# Altium integrated library NXP Semiconductors Cortex-M3.IntLib: 52 symbols (part 1 of 7)
Pins are listed as number, name and electrical type; pins without a type are passive.

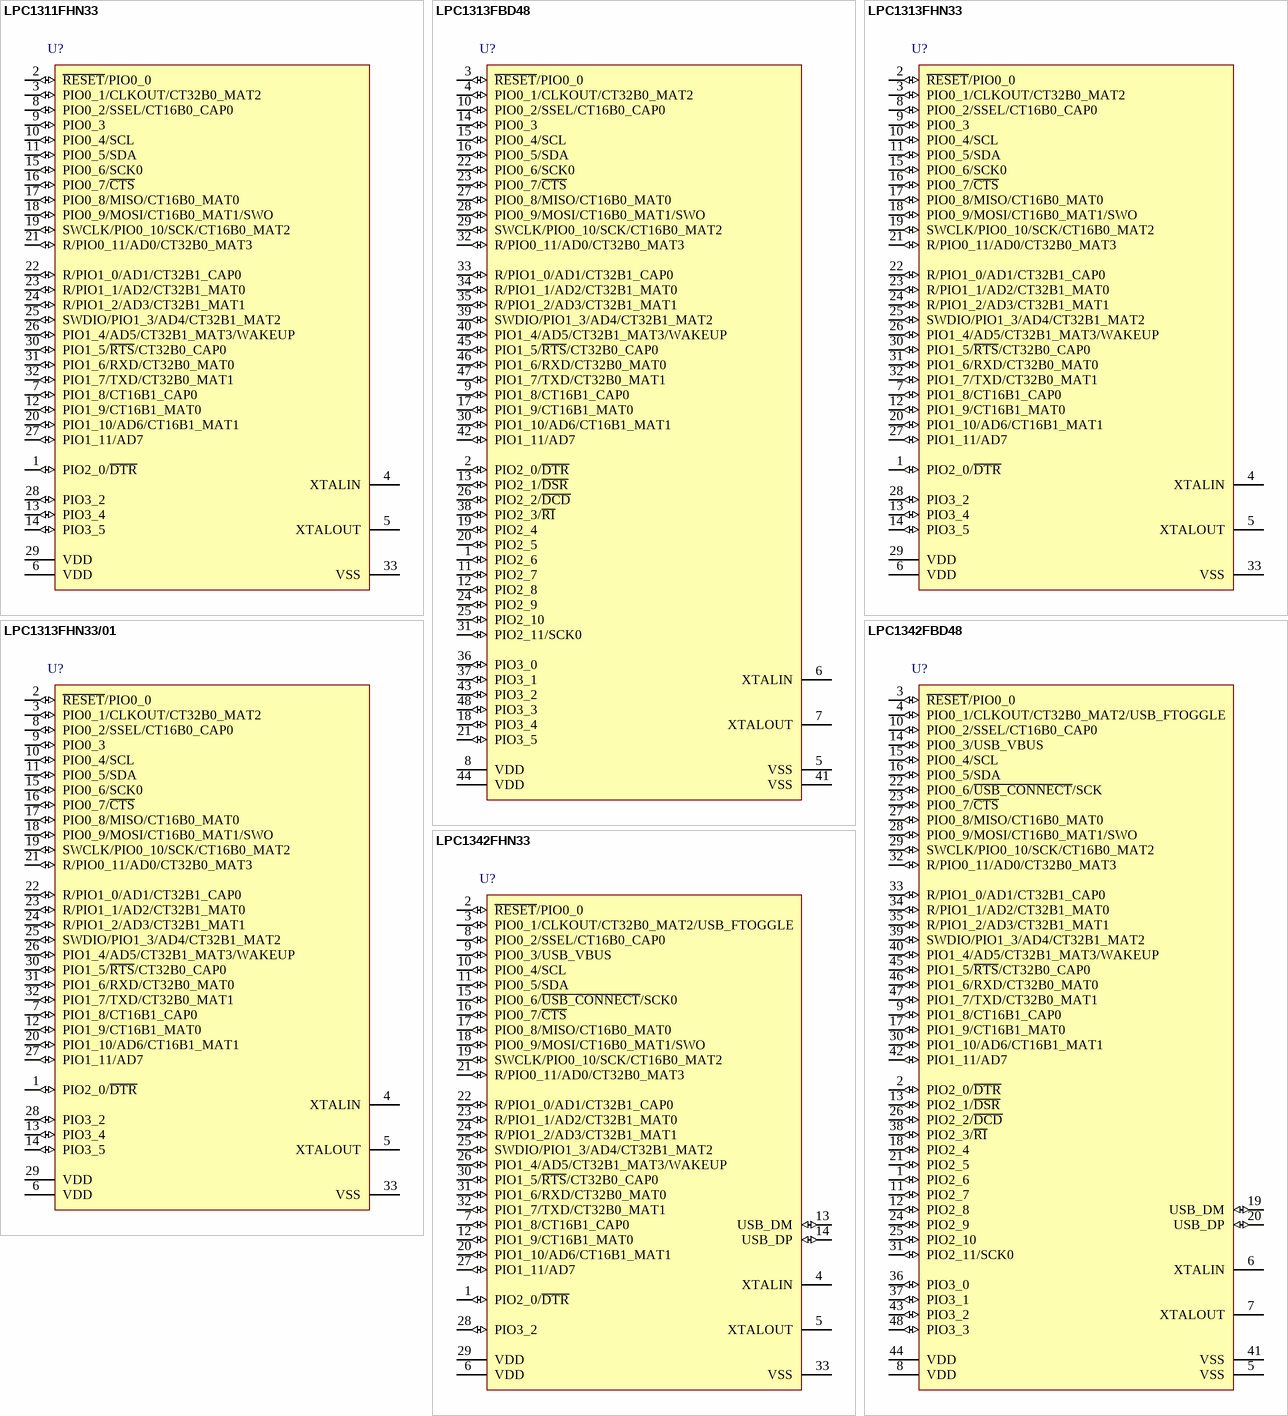
[diagram p0: symbols LPC1311FHN33 to LPC1342FHN33]

## LPC1311FHN33
designator U?
Cortex-M3, 32-Bit ARM MCU, 8 kB flash, 4 kB SRAM, 72 MHz, Power profiles, 32-Pin HVQFN; PartNumber: LPC1311FHN33; fmax: 72 MHz; SRAM: 4 kB; Flash: 8 kB; GPIOs: 28; UART: 1; PLL: Y; ADC channels: 8; Timers: 4; VDD (min): 2 V; VDD (typ): 3.3 V; VDD (max): 3.6 V; DatasheetVersion: Rev. 4, Jun-2011; PackageVersion: Jun-2009; PackageReference: SOT865-3; PackageDescription: HVQFN32: Plastic Thermal Enhanced Very Thin Quad Flat Package; No Leads; 32 Terminals; Body 7 x 7 x 0.85 mm; I2C: 1; SPI: 1; SSP: 1; Code_JEDEC: MO-220; ComponentLink1Description: Manufacturer URL; ComponentLink1URL: http://www.nxp.com/; ComponentLink2Description: Datasheet; ComponentLink2URL: http://www.nxp.com/documents/data_sheet/LPC1311_13_42_43.pdf
footprint SOT865-3_V (QFN, 32-Leads, Body 7x7mm, Pitch 0.65mm, Thermal Pad 4.7x4.7mm, NXP Recommended)
footprint SOT865-3_N (QFN, 32-Leads, Body 7x7mm, Pitch 0.65mm, Thermal Pad 4.9x4.9mm, IPC Medium Density)
footprint SOT865-3_L (QFN, 32-Leads, Body 7x7mm, Pitch 0.65mm, Thermal Pad 4.9x4.9mm, IPC High Density)
footprint SOT865-3_M (QFN, 32-Leads, Body 7x7mm, Pitch 0.65mm, Thermal Pad 4.9x4.9mm, IPC Low Density)
pins: 1 PIO2_0/~{DTR} (io), 2 ~{RESET}/PIO0_0 (io), 3 PIO0_1/CLKOUT/CT32B0_MAT2 (io), 4 XTALIN, 5 XTALOUT, 6 VDD (power), 7 PIO1_8/CT16B1_CAP0 (io), 8 PIO0_2/SSEL/CT16B0_CAP0 (io), 9 PIO0_3 (io), 10 PIO0_4/SCL (io), 11 PIO0_5/SDA (io), 12 PIO1_9/CT16B1_MAT0 (io), 13 PIO3_4 (io), 14 PIO3_5 (io), 15 PIO0_6/SCK0 (io), 16 PIO0_7/~{CTS} (io), 17 PIO0_8/MISO/CT16B0_MAT0 (io), 18 PIO0_9/MOSI/CT16B0_MAT1/SWO (io), 19 SWCLK/PIO0_10/SCK/CT16B0_MAT2 (io), 20 PIO1_10/AD6/CT16B1_MAT1 (io), 21 R/PIO0_11/AD0/CT32B0_MAT3 (io), 22 R/PIO1_0/AD1/CT32B1_CAP0 (io), 23 R/PIO1_1/AD2/CT32B1_MAT0 (io), 24 R/PIO1_2/AD3/CT32B1_MAT1 (io), 25 SWDIO/PIO1_3/AD4/CT32B1_MAT2 (io), 26 PIO1_4/AD5/CT32B1_MAT3/WAKEUP (io), 27 PIO1_11/AD7 (io), 28 PIO3_2 (io), 29 VDD (power), 30 PIO1_5/~{RTS}/CT32B0_CAP0 (io), 31 PIO1_6/RXD/CT32B0_MAT0 (io), 32 PIO1_7/TXD/CT32B0_MAT1 (io), 33 VSS (power)

## LPC1313FBD48
designator U?
Cortex-M3, 32-Bit ARM MCU, 32 kB flash, 8 kB SRAM, 72 MHz, Power profiles, 48-Pin LQFP; PartNumber: LPC1313FBD48; fmax: 72 MHz; SRAM: 8 kB; Flash: 32 kB; GPIOs: 42; UART: 1; PLL: Y; ADC channels: 8; Timers: 4; VDD (min): 2 V; VDD (typ): 3.3 V; VDD (max): 3.6 V; Code_IEC: 136E05; DatasheetVersion: Rev. 4, Jun-2011; PackageVersion: 37677; PackageReference: SOT313-2; PackageDescription: LQFP48: Plastic Low Profile Quad Flat Package; 48 Leads; Body 7 x 7 x 1.4 mm; I2C: 1; SPI: 1; SSP: 1; Code_JEDEC: MS-026; ComponentLink1Description: Manufacturer URL; ComponentLink1URL: http://www.nxp.com/; ComponentLink2Description: Datasheet; ComponentLink2URL: http://www.nxp.com/documents/data_sheet/LPC1311_13_42_43.pdf
footprint SOT313-2_V (Thin QFP, 48-Leads, Body 7x7mm, Pitch 0.5mm, NXP Recommended)
pins: 1 PIO2_6 (io), 2 PIO2_0/~{DTR} (io), 3 ~{RESET}/PIO0_0 (io), 4 PIO0_1/CLKOUT/CT32B0_MAT2 (io), 5 VSS (power), 6 XTALIN, 7 XTALOUT, 8 VDD (power), 9 PIO1_8/CT16B1_CAP0 (io), 10 PIO0_2/SSEL/CT16B0_CAP0 (io), 11 PIO2_7 (io), 12 PIO2_8 (io), 13 PIO2_1/~{DSR} (io), 14 PIO0_3 (io), 15 PIO0_4/SCL (io), 16 PIO0_5/SDA (io), 17 PIO1_9/CT16B1_MAT0 (io), 18 PIO3_4 (io), 19 PIO2_4 (io), 20 PIO2_5 (io), 21 PIO3_5 (io), 22 PIO0_6/SCK0 (io), 23 PIO0_7/~{CTS} (io), 24 PIO2_9 (io), 25 PIO2_10 (io), 26 PIO2_2/~{DCD} (io), 27 PIO0_8/MISO/CT16B0_MAT0 (io), 28 PIO0_9/MOSI/CT16B0_MAT1/SWO (io), 29 SWCLK/PIO0_10/SCK/CT16B0_MAT2 (io), 30 PIO1_10/AD6/CT16B1_MAT1 (io), 31 PIO2_11/SCK0 (io), 32 R/PIO0_11/AD0/CT32B0_MAT3 (io), 33 R/PIO1_0/AD1/CT32B1_CAP0 (io), 34 R/PIO1_1/AD2/CT32B1_MAT0 (io), 35 R/PIO1_2/AD3/CT32B1_MAT1 (io), 36 PIO3_0 (io), 37 PIO3_1 (io), 38 PIO2_3/~{RI} (io), 39 SWDIO/PIO1_3/AD4/CT32B1_MAT2 (io), 40 PIO1_4/AD5/CT32B1_MAT3/WAKEUP (io), 41 VSS (power), 42 PIO1_11/AD7 (io), 43 PIO3_2 (io), 44 VDD (power), 45 PIO1_5/~{RTS}/CT32B0_CAP0 (io), 46 PIO1_6/RXD/CT32B0_MAT0 (io), 47 PIO1_7/TXD/CT32B0_MAT1 (io), 48 PIO3_3 (io)

## LPC1313FHN33
designator U?
Cortex-M3, 32-Bit ARM MCU, 32 kB flash, 8 kB SRAM, 72 MHz, 32-Pin HVQFN; PartNumber: LPC1313FHN33; fmax: 72 MHz; SRAM: 8 kB; Flash: 32 kB; GPIOs: 28; UART: 1; PLL: Y; ADC channels: 8; Timers: 4; VDD (min): 2 V; VDD (typ): 3.3 V; VDD (max): 3.6 V; DatasheetVersion: Rev. 4, Jun-2011; PackageVersion: Jun-2009; PackageReference: SOT865-3; PackageDescription: HVQFN32: Plastic Thermal Enhanced Very Thin Quad Flat Package; No Leads; 32 Terminals; Body 7 x 7 x 0.85 mm; I2C: 1; SPI: 1; SSP: 1; Code_JEDEC: MO-220; ComponentLink1Description: Manufacturer URL; ComponentLink1URL: http://www.nxp.com/; ComponentLink2Description: Datasheet; ComponentLink2URL: http://www.nxp.com/documents/data_sheet/LPC1311_13_42_43.pdf
footprint SOT865-3_V (QFN, 32-Leads, Body 7x7mm, Pitch 0.65mm, Thermal Pad 4.7x4.7mm, NXP Recommended)
footprint SOT865-3_N (QFN, 32-Leads, Body 7x7mm, Pitch 0.65mm, Thermal Pad 4.9x4.9mm, IPC Medium Density)
footprint SOT865-3_L (QFN, 32-Leads, Body 7x7mm, Pitch 0.65mm, Thermal Pad 4.9x4.9mm, IPC High Density)
footprint SOT865-3_M (QFN, 32-Leads, Body 7x7mm, Pitch 0.65mm, Thermal Pad 4.9x4.9mm, IPC Low Density)
pins: 1 PIO2_0/~{DTR} (io), 2 ~{RESET}/PIO0_0 (io), 3 PIO0_1/CLKOUT/CT32B0_MAT2 (io), 4 XTALIN, 5 XTALOUT, 6 VDD (power), 7 PIO1_8/CT16B1_CAP0 (io), 8 PIO0_2/SSEL/CT16B0_CAP0 (io), 9 PIO0_3 (io), 10 PIO0_4/SCL (io), 11 PIO0_5/SDA (io), 12 PIO1_9/CT16B1_MAT0 (io), 13 PIO3_4 (io), 14 PIO3_5 (io), 15 PIO0_6/SCK0 (io), 16 PIO0_7/~{CTS} (io), 17 PIO0_8/MISO/CT16B0_MAT0 (io), 18 PIO0_9/MOSI/CT16B0_MAT1/SWO (io), 19 SWCLK/PIO0_10/SCK/CT16B0_MAT2 (io), 20 PIO1_10/AD6/CT16B1_MAT1 (io), 21 R/PIO0_11/AD0/CT32B0_MAT3 (io), 22 R/PIO1_0/AD1/CT32B1_CAP0 (io), 23 R/PIO1_1/AD2/CT32B1_MAT0 (io), 24 R/PIO1_2/AD3/CT32B1_MAT1 (io), 25 SWDIO/PIO1_3/AD4/CT32B1_MAT2 (io), 26 PIO1_4/AD5/CT32B1_MAT3/WAKEUP (io), 27 PIO1_11/AD7 (io), 28 PIO3_2 (io), 29 VDD (power), 30 PIO1_5/~{RTS}/CT32B0_CAP0 (io), 31 PIO1_6/RXD/CT32B0_MAT0 (io), 32 PIO1_7/TXD/CT32B0_MAT1 (io), 33 VSS (power)

## LPC1313FHN33/01
designator U?
Cortex-M3, 32-Bit ARM MCU, 32 kB flash, 8 kB SRAM, 72 MHz, 32-Pin HVQFN; PartNumber: LPC1313FHN33/01; fmax: 72 MHz; SRAM: 8 kB; Flash: 32 kB; GPIOs: 28; UART: 1; PLL: Y; ADC channels: 8; Timers: 4; VDD (min): 2 V; VDD (typ): 3.3 V; VDD (max): 3.6 V; DatasheetVersion: Rev. 4, Jun-2011; PackageVersion: Jun-2009; PackageReference: SOT865-3; PackageDescription: HVQFN32: Plastic Thermal Enhanced Very Thin Quad Flat Package; No Leads; 32 Terminals; Body 7 x 7 x 0.85 mm; I2C: 1; SPI: 1; SSP: 1; Code_JEDEC: MO-220; ComponentLink1Description: Manufacturer URL; ComponentLink1URL: http://www.nxp.com/; ComponentLink2Description: Datasheet; ComponentLink2URL: http://www.nxp.com/documents/data_sheet/LPC1311_13_42_43.pdf
footprint SOT865-3_V (QFN, 32-Leads, Body 7x7mm, Pitch 0.65mm, Thermal Pad 4.7x4.7mm, NXP Recommended)
footprint SOT865-3_N (QFN, 32-Leads, Body 7x7mm, Pitch 0.65mm, Thermal Pad 4.9x4.9mm, IPC Medium Density)
footprint SOT865-3_L (QFN, 32-Leads, Body 7x7mm, Pitch 0.65mm, Thermal Pad 4.9x4.9mm, IPC High Density)
footprint SOT865-3_M (QFN, 32-Leads, Body 7x7mm, Pitch 0.65mm, Thermal Pad 4.9x4.9mm, IPC Low Density)
pins: 1 PIO2_0/~{DTR} (io), 2 ~{RESET}/PIO0_0 (io), 3 PIO0_1/CLKOUT/CT32B0_MAT2 (io), 4 XTALIN, 5 XTALOUT, 6 VDD (power), 7 PIO1_8/CT16B1_CAP0 (io), 8 PIO0_2/SSEL/CT16B0_CAP0 (io), 9 PIO0_3 (io), 10 PIO0_4/SCL (io), 11 PIO0_5/SDA (io), 12 PIO1_9/CT16B1_MAT0 (io), 13 PIO3_4 (io), 14 PIO3_5 (io), 15 PIO0_6/SCK0 (io), 16 PIO0_7/~{CTS} (io), 17 PIO0_8/MISO/CT16B0_MAT0 (io), 18 PIO0_9/MOSI/CT16B0_MAT1/SWO (io), 19 SWCLK/PIO0_10/SCK/CT16B0_MAT2 (io), 20 PIO1_10/AD6/CT16B1_MAT1 (io), 21 R/PIO0_11/AD0/CT32B0_MAT3 (io), 22 R/PIO1_0/AD1/CT32B1_CAP0 (io), 23 R/PIO1_1/AD2/CT32B1_MAT0 (io), 24 R/PIO1_2/AD3/CT32B1_MAT1 (io), 25 SWDIO/PIO1_3/AD4/CT32B1_MAT2 (io), 26 PIO1_4/AD5/CT32B1_MAT3/WAKEUP (io), 27 PIO1_11/AD7 (io), 28 PIO3_2 (io), 29 VDD (power), 30 PIO1_5/~{RTS}/CT32B0_CAP0 (io), 31 PIO1_6/RXD/CT32B0_MAT0 (io), 32 PIO1_7/TXD/CT32B0_MAT1 (io), 33 VSS (power)

## LPC1342FBD48
designator U?
Cortex-M3, 32-Bit ARM MCU, 16 kB flash, 4 kB SRAM, 72 MHz performance, USB Device, 48-Pin LQFP; PartNumber: LPC1342FBD48; fmax: 72 MHz; SRAM: 4 kB; Flash: 16 kB; GPIOs: 42; USB: 1; PLL: Y; ADC channels: 8; Timers: 4; VDD (min): 2 V; VDD (typ): 3.3 V; VDD (max): 3.6 V; Code_IEC: 136E05; DatasheetVersion: Rev. 4, Jun-2011; PackageVersion: 37677; PackageReference: SOT313-2; PackageDescription: LQFP48: Plastic Low Profile Quad Flat Package; 48 Leads; Body 7 x 7 x 1.4 mm; UART: 1; I2C: 1; SPI: 1; SSP: 1; Code_JEDEC: MS-026; ComponentLink1Description: Manufacturer URL; ComponentLink1URL: http://www.nxp.com/; ComponentLink2Description: Datasheet; ComponentLink2URL: http://www.nxp.com/documents/data_sheet/LPC1311_13_42_43.pdf
footprint SOT313-2_V (Thin QFP, 48-Leads, Body 7x7mm, Pitch 0.5mm, NXP Recommended)
pins: 1 PIO2_6 (io), 2 PIO2_0/~{DTR} (io), 3 ~{RESET}/PIO0_0 (io), 4 PIO0_1/CLKOUT/CT32B0_MAT2/USB_FTOGGLE (io), 5 VSS (power), 6 XTALIN, 7 XTALOUT, 8 VDD (power), 9 PIO1_8/CT16B1_CAP0 (io), 10 PIO0_2/SSEL/CT16B0_CAP0 (io), 11 PIO2_7 (io), 12 PIO2_8 (io), 13 PIO2_1/~{DSR} (io), 14 PIO0_3/USB_VBUS (io), 15 PIO0_4/SCL (io), 16 PIO0_5/SDA (io), 17 PIO1_9/CT16B1_MAT0 (io), 18 PIO2_4 (io), 19 USB_DM (io), 20 USB_DP (io), 21 PIO2_5 (io), 22 PIO0_6/~{USB_CONNECT}/SCK (io), 23 PIO0_7/~{CTS} (io), 24 PIO2_9 (io), 25 PIO2_10 (io), 26 PIO2_2/~{DCD} (io), 27 PIO0_8/MISO/CT16B0_MAT0 (io), 28 PIO0_9/MOSI/CT16B0_MAT1/SWO (io), 29 SWCLK/PIO0_10/SCK/CT16B0_MAT2 (io), 30 PIO1_10/AD6/CT16B1_MAT1 (io), 31 PIO2_11/SCK0 (io), 32 R/PIO0_11/AD0/CT32B0_MAT3 (io), 33 R/PIO1_0/AD1/CT32B1_CAP0 (io), 34 R/PIO1_1/AD2/CT32B1_MAT0 (io), 35 R/PIO1_2/AD3/CT32B1_MAT1 (io), 36 PIO3_0 (io), 37 PIO3_1 (io), 38 PIO2_3/~{RI} (io), 39 SWDIO/PIO1_3/AD4/CT32B1_MAT2 (io), 40 PIO1_4/AD5/CT32B1_MAT3/WAKEUP (io), 41 VSS (power), 42 PIO1_11/AD7 (io), 43 PIO3_2 (io), 44 VDD (power), 45 PIO1_5/~{RTS}/CT32B0_CAP0 (io), 46 PIO1_6/RXD/CT32B0_MAT0 (io), 47 PIO1_7/TXD/CT32B0_MAT1 (io), 48 PIO3_3 (io)

## LPC1342FHN33
designator U?
Cortex-M3, 32-Bit ARM MCU, 16 kB flash, 4 kB SRAM, 72 MHz USB device, 32-Pin HVQFN; PartNumber: LPC1342FHN33; fmax: 72 MHz; SRAM: 4 kB; Flash: 16 kB; GPIOs: 26; USB: 1; PLL: Y; ADC channels: 8; Timers: 4; VDD (min): 2 V; VDD (typ): 3.3 V; VDD (max): 3.6 V; DatasheetVersion: Rev. 4, Jun-2011; PackageVersion: Jun-2009; PackageReference: SOT865-3; PackageDescription: HVQFN32: Plastic Thermal Enhanced Very Thin Quad Flat Package; No Leads; 32 Terminals; Body 7 x 7 x 0.85 mm; UART: 1; I2C: 1; SPI: 1; SSP: 1; Code_JEDEC: MO-220; ComponentLink1Description: Manufacturer URL; ComponentLink1URL: http://www.nxp.com/; ComponentLink2Description: Datasheet; ComponentLink2URL: http://www.nxp.com/documents/data_sheet/LPC1311_13_42_43.pdf
footprint SOT865-3_V (QFN, 32-Leads, Body 7x7mm, Pitch 0.65mm, Thermal Pad 4.7x4.7mm, NXP Recommended)
footprint SOT865-3_N (QFN, 32-Leads, Body 7x7mm, Pitch 0.65mm, Thermal Pad 4.9x4.9mm, IPC Medium Density)
footprint SOT865-3_L (QFN, 32-Leads, Body 7x7mm, Pitch 0.65mm, Thermal Pad 4.9x4.9mm, IPC High Density)
footprint SOT865-3_M (QFN, 32-Leads, Body 7x7mm, Pitch 0.65mm, Thermal Pad 4.9x4.9mm, IPC Low Density)
pins: 1 PIO2_0/~{DTR} (io), 2 ~{RESET}/PIO0_0 (io), 3 PIO0_1/CLKOUT/CT32B0_MAT2/USB_FTOGGLE (io), 4 XTALIN, 5 XTALOUT, 6 VDD (power), 7 PIO1_8/CT16B1_CAP0 (io), 8 PIO0_2/SSEL/CT16B0_CAP0 (io), 9 PIO0_3/USB_VBUS (io), 10 PIO0_4/SCL (io), 11 PIO0_5/SDA (io), 12 PIO1_9/CT16B1_MAT0 (io), 13 USB_DM (io), 14 USB_DP (io), 15 PIO0_6/~{USB_CONNECT}/SCK0 (io), 16 PIO0_7/~{CTS} (io), 17 PIO0_8/MISO/CT16B0_MAT0 (io), 18 PIO0_9/MOSI/CT16B0_MAT1/SWO (io), 19 SWCLK/PIO0_10/SCK/CT16B0_MAT2 (io), 20 PIO1_10/AD6/CT16B1_MAT1 (io), 21 R/PIO0_11/AD0/CT32B0_MAT3 (io), 22 R/PIO1_0/AD1/CT32B1_CAP0 (io), 23 R/PIO1_1/AD2/CT32B1_MAT0 (io), 24 R/PIO1_2/AD3/CT32B1_MAT1 (io), 25 SWDIO/PIO1_3/AD4/CT32B1_MAT2 (io), 26 PIO1_4/AD5/CT32B1_MAT3/WAKEUP (io), 27 PIO1_11/AD7 (io), 28 PIO3_2 (io), 29 VDD (power), 30 PIO1_5/~{RTS}/CT32B0_CAP0 (io), 31 PIO1_6/RXD/CT32B0_MAT0 (io), 32 PIO1_7/TXD/CT32B0_MAT1 (io), 33 VSS (power)

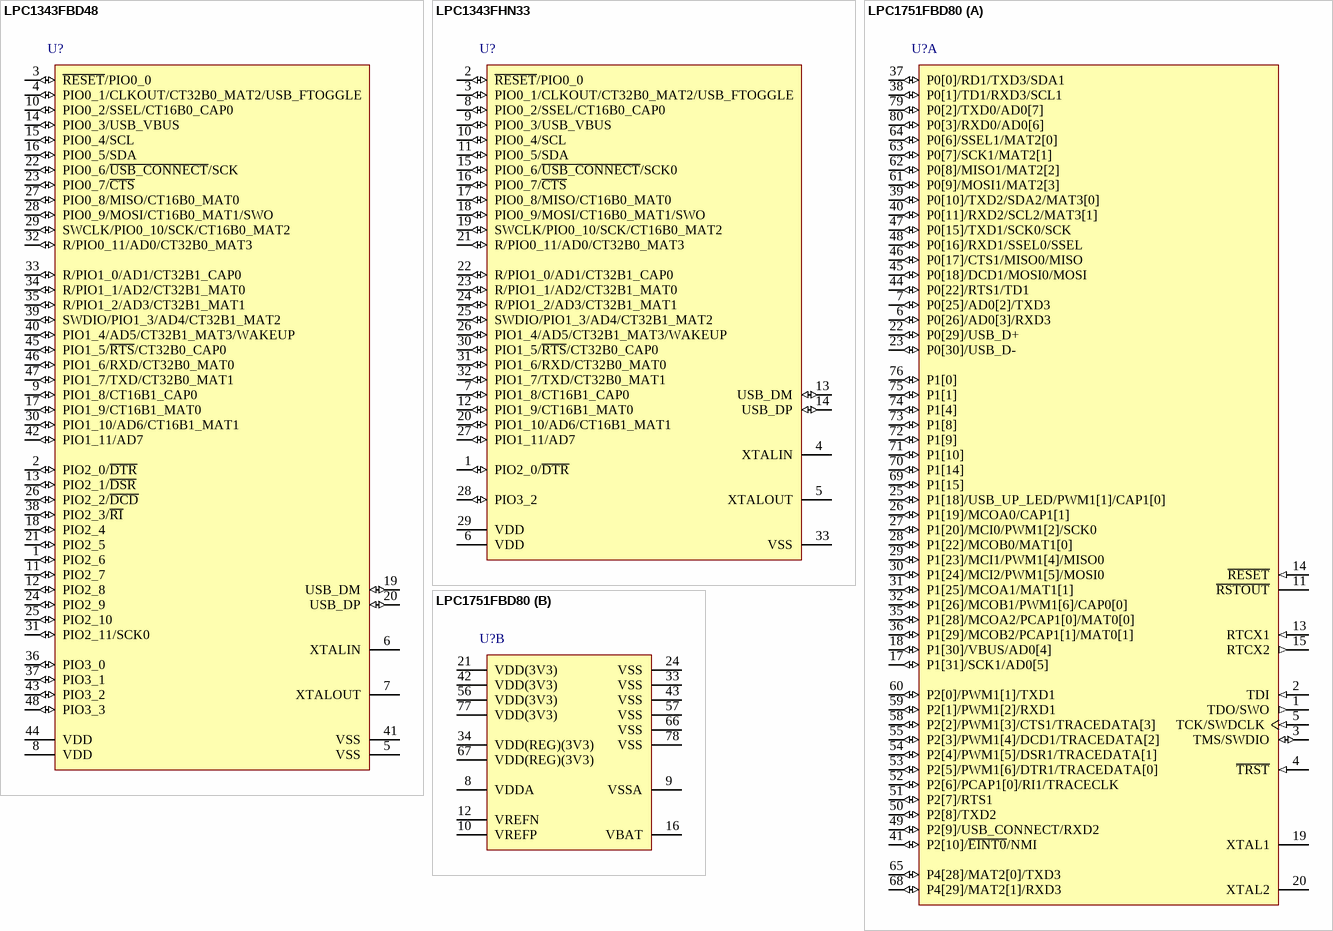
[diagram p1: symbols LPC1343FBD48 to LPC1751FBD80]

## LPC1343FBD48
designator U?
Cortex-M3, 32-Bit ARM MCU, 32 kB flash, 8 kB SRAM, 72 MHz USB device, 48-Pin LQFP; PartNumber: LPC1343FBD48; fmax: 72 MHz; SRAM: 8 kB; Flash: 32 kB; GPIOs: 40; USB: 1; PLL: Y; ADC channels: 8; Timers: 4; VDD (min): 2 V; VDD (typ): 3.3 V; VDD (max): 3.6 V; Code_IEC: 136E05; DatasheetVersion: Rev. 4, Jun-2011; PackageVersion: 37677; PackageReference: SOT313-2; PackageDescription: LQFP48: Plastic Low Profile Quad Flat Package; 48 Leads; Body 7 x 7 x 1.4 mm; UART: 1; I2C: 1; SPI: 1; SSP: 1; Code_JEDEC: MS-026; ComponentLink1Description: Manufacturer URL; ComponentLink1URL: http://www.nxp.com/; ComponentLink2Description: Datasheet; ComponentLink2URL: http://www.nxp.com/documents/data_sheet/LPC1311_13_42_43.pdf
footprint SOT313-2_V (Thin QFP, 48-Leads, Body 7x7mm, Pitch 0.5mm, NXP Recommended)
pins: 1 PIO2_6 (io), 2 PIO2_0/~{DTR} (io), 3 ~{RESET}/PIO0_0 (io), 4 PIO0_1/CLKOUT/CT32B0_MAT2/USB_FTOGGLE (io), 5 VSS (power), 6 XTALIN, 7 XTALOUT, 8 VDD (power), 9 PIO1_8/CT16B1_CAP0 (io), 10 PIO0_2/SSEL/CT16B0_CAP0 (io), 11 PIO2_7 (io), 12 PIO2_8 (io), 13 PIO2_1/~{DSR} (io), 14 PIO0_3/USB_VBUS (io), 15 PIO0_4/SCL (io), 16 PIO0_5/SDA (io), 17 PIO1_9/CT16B1_MAT0 (io), 18 PIO2_4 (io), 19 USB_DM (io), 20 USB_DP (io), 21 PIO2_5 (io), 22 PIO0_6/~{USB_CONNECT}/SCK (io), 23 PIO0_7/~{CTS} (io), 24 PIO2_9 (io), 25 PIO2_10 (io), 26 PIO2_2/~{DCD} (io), 27 PIO0_8/MISO/CT16B0_MAT0 (io), 28 PIO0_9/MOSI/CT16B0_MAT1/SWO (io), 29 SWCLK/PIO0_10/SCK/CT16B0_MAT2 (io), 30 PIO1_10/AD6/CT16B1_MAT1 (io), 31 PIO2_11/SCK0 (io), 32 R/PIO0_11/AD0/CT32B0_MAT3 (io), 33 R/PIO1_0/AD1/CT32B1_CAP0 (io), 34 R/PIO1_1/AD2/CT32B1_MAT0 (io), 35 R/PIO1_2/AD3/CT32B1_MAT1 (io), 36 PIO3_0 (io), 37 PIO3_1 (io), 38 PIO2_3/~{RI} (io), 39 SWDIO/PIO1_3/AD4/CT32B1_MAT2 (io), 40 PIO1_4/AD5/CT32B1_MAT3/WAKEUP (io), 41 VSS (power), 42 PIO1_11/AD7 (io), 43 PIO3_2 (io), 44 VDD (power), 45 PIO1_5/~{RTS}/CT32B0_CAP0 (io), 46 PIO1_6/RXD/CT32B0_MAT0 (io), 47 PIO1_7/TXD/CT32B0_MAT1 (io), 48 PIO3_3 (io)

## LPC1343FHN33
designator U?
Cortex-M3, 32-Bit ARM MCU, 32 kB flash, 8 kB SRAM, 72 MHz USB device, 32-Pin HVQFN; PartNumber: LPC1343FHN33; fmax: 72 MHz; SRAM: 8 kB; Flash: 32 kB; GPIOs: 26; USB: 1; PLL: Y; ADC channels: 8; Timers: 4; VDD (min): 2 V; VDD (typ): 3.3 V; VDD (max): 3.6 V; DatasheetVersion: Rev. 4, Jun-2011; PackageVersion: Jun-2009; PackageReference: SOT865-3; PackageDescription: HVQFN32: Plastic Thermal Enhanced Very Thin Quad Flat Package; No Leads; 32 Terminals; Body 7 x 7 x 0.85 mm; UART: 1; I2C: 1; SPI: 1; SSP: 1; Code_JEDEC: MO-220; ComponentLink1Description: Manufacturer URL; ComponentLink1URL: http://www.nxp.com/; ComponentLink2Description: Datasheet; ComponentLink2URL: http://www.nxp.com/documents/data_sheet/LPC1311_13_42_43.pdf
footprint SOT865-3_V (QFN, 32-Leads, Body 7x7mm, Pitch 0.65mm, Thermal Pad 4.7x4.7mm, NXP Recommended)
footprint SOT865-3_N (QFN, 32-Leads, Body 7x7mm, Pitch 0.65mm, Thermal Pad 4.9x4.9mm, IPC Medium Density)
footprint SOT865-3_L (QFN, 32-Leads, Body 7x7mm, Pitch 0.65mm, Thermal Pad 4.9x4.9mm, IPC High Density)
footprint SOT865-3_M (QFN, 32-Leads, Body 7x7mm, Pitch 0.65mm, Thermal Pad 4.9x4.9mm, IPC Low Density)
pins: 1 PIO2_0/~{DTR} (io), 2 ~{RESET}/PIO0_0 (io), 3 PIO0_1/CLKOUT/CT32B0_MAT2/USB_FTOGGLE (io), 4 XTALIN, 5 XTALOUT, 6 VDD (power), 7 PIO1_8/CT16B1_CAP0 (io), 8 PIO0_2/SSEL/CT16B0_CAP0 (io), 9 PIO0_3/USB_VBUS (io), 10 PIO0_4/SCL (io), 11 PIO0_5/SDA (io), 12 PIO1_9/CT16B1_MAT0 (io), 13 USB_DM (io), 14 USB_DP (io), 15 PIO0_6/~{USB_CONNECT}/SCK0 (io), 16 PIO0_7/~{CTS} (io), 17 PIO0_8/MISO/CT16B0_MAT0 (io), 18 PIO0_9/MOSI/CT16B0_MAT1/SWO (io), 19 SWCLK/PIO0_10/SCK/CT16B0_MAT2 (io), 20 PIO1_10/AD6/CT16B1_MAT1 (io), 21 R/PIO0_11/AD0/CT32B0_MAT3 (io), 22 R/PIO1_0/AD1/CT32B1_CAP0 (io), 23 R/PIO1_1/AD2/CT32B1_MAT0 (io), 24 R/PIO1_2/AD3/CT32B1_MAT1 (io), 25 SWDIO/PIO1_3/AD4/CT32B1_MAT2 (io), 26 PIO1_4/AD5/CT32B1_MAT3/WAKEUP (io), 27 PIO1_11/AD7 (io), 28 PIO3_2 (io), 29 VDD (power), 30 PIO1_5/~{RTS}/CT32B0_CAP0 (io), 31 PIO1_6/RXD/CT32B0_MAT0 (io), 32 PIO1_7/TXD/CT32B0_MAT1 (io), 33 VSS (power)

## LPC1751FBD80
designator U?
Cortex-M3, 32-Bit ARM MCU, 32 kB flash, 8 kB SRAM, 100 MHz, USB 2.0 Device, CAN, 12-Bit ADC, 80-Pin LQFP; PartNumber: LPC1751FBD80; fmax: 100 MHz; SRAM: 8 kB; Flash: 32 kB; GPIOs: 52; USB: 1; UART: 4; SSP: 2; PWM: 6; PLL: Y; VDD (min): 2.4 V; VDD (typ): 3.3 V; VDD (max): 3.6 V; Code_IEC: 136E15; DatasheetVersion: Rev. 7, Mar-2011; PackageVersion: 37677; PackageReference: SOT315-1; PackageDescription: LQFP80: Plastic Low Profile Quad Flat Package; 80 Leads; Body 12 x 12 x 1.4 mm; CAN: 1; SPI: 1; ADC channels: 6; Timers: 4; Code_JEDEC: MS-026; ComponentLink1Description: Manufacturer URL; ComponentLink1URL: http://www.nxp.com/; ComponentLink2Description: Datasheet; ComponentLink2URL: http://www.nxp.com/documents/data_sheet/LPC1759_58_56_54_52_51.pdf
footprint SOT315-1_V (Thin QFP, 80-Leads, Body 12x12mm, Pitch 0.5mm, NXP Recommended)
part A pins: 1 TDO/SWO (out), 2 TDI (in), 3 TMS/SWDIO (io), 4 ~{TRST} (in), 5 TCK/SWDCLK (in), 6 P0[26]/AD0[3]/RXD3 (io), 7 P0[25]/AD0[2]/TXD3 (io), 11 ~{RSTOUT}, 13 RTCX1 (in), 14 ~{RESET} (in), 15 RTCX2 (out), 17 P1[31]/SCK1/AD0[5] (io), 18 P1[30]/VBUS/AD0[4] (io), 19 XTAL1, 20 XTAL2, 22 P0[29]/USB_D+ (io), 23 P0[30]/USB_D- (io), 25 P1[18]/USB_UP_LED/PWM1[1]/CAP1[0] (io), 26 P1[19]/MCOA0/CAP1[1] (io), 27 P1[20]/MCI0/PWM1[2]/SCK0 (io), 28 P1[22]/MCOB0/MAT1[0] (io), 29 P1[23]/MCI1/PWM1[4]/MISO0 (io), 30 P1[24]/MCI2/PWM1[5]/MOSI0 (io), 31 P1[25]/MCOA1/MAT1[1] (io), 32 P1[26]/MCOB1/PWM1[6]/CAP0[0] (io), 35 P1[28]/MCOA2/PCAP1[0]/MAT0[0] (io), 36 P1[29]/MCOB2/PCAP1[1]/MAT0[1] (io), 37 P0[0]/RD1/TXD3/SDA1 (io), 38 P0[1]/TD1/RXD3/SCL1 (io), 39 P0[10]/TXD2/SDA2/MAT3[0] (io), 40 P0[11]/RXD2/SCL2/MAT3[1] (io), 41 P2[10]/~{EINT0}/NMI (io), 44 P0[22]/RTS1/TD1 (io), 45 P0[18]/DCD1/MOSI0/MOSI (io), 46 P0[17]/CTS1/MISO0/MISO (io), 47 P0[15]/TXD1/SCK0/SCK (io), 48 P0[16]/RXD1/SSEL0/SSEL (io), 49 P2[9]/USB_CONNECT/RXD2 (io), 50 P2[8]/TXD2 (io), 51 P2[7]/RTS1 (io), 52 P2[6]/PCAP1[0]/RI1/TRACECLK (io), 53 P2[5]/PWM1[6]/DTR1/TRACEDATA[0] (io), 54 P2[4]/PWM1[5]/DSR1/TRACEDATA[1] (io), 55 P2[3]/PWM1[4]/DCD1/TRACEDATA[2] (io), 58 P2[2]/PWM1[3]/CTS1/TRACEDATA[3] (io), 59 P2[1]/PWM1[2]/RXD1 (io), 60 P2[0]/PWM1[1]/TXD1 (io), 61 P0[9]/MOSI1/MAT2[3] (io), 62 P0[8]/MISO1/MAT2[2] (io), 63 P0[7]/SCK1/MAT2[1] (io), 64 P0[6]/SSEL1/MAT2[0] (io), 65 P4[28]/MAT2[0]/TXD3 (io), 68 P4[29]/MAT2[1]/RXD3 (io), 69 P1[15] (io), 70 P1[14] (io), 71 P1[10] (io), 72 P1[9] (io), 73 P1[8] (io), 74 P1[4] (io), 75 P1[1] (io), 76 P1[0] (io), 79 P0[2]/TXD0/AD0[7] (io), 80 P0[3]/RXD0/AD0[6] (io)
part B pins: 8 VDDA (power), 9 VSSA (power), 10 VREFP (power), 12 VREFN (power), 16 VBAT (power), 21 VDD(3V3) (power), 24 VSS (power), 33 VSS (power), 34 VDD(REG)(3V3) (power), 42 VDD(3V3) (power), 43 VSS (power), 56 VDD(3V3) (power), 57 VSS (power), 66 VSS (power), 67 VDD(REG)(3V3) (power), 77 VDD(3V3) (power), 78 VSS (power)

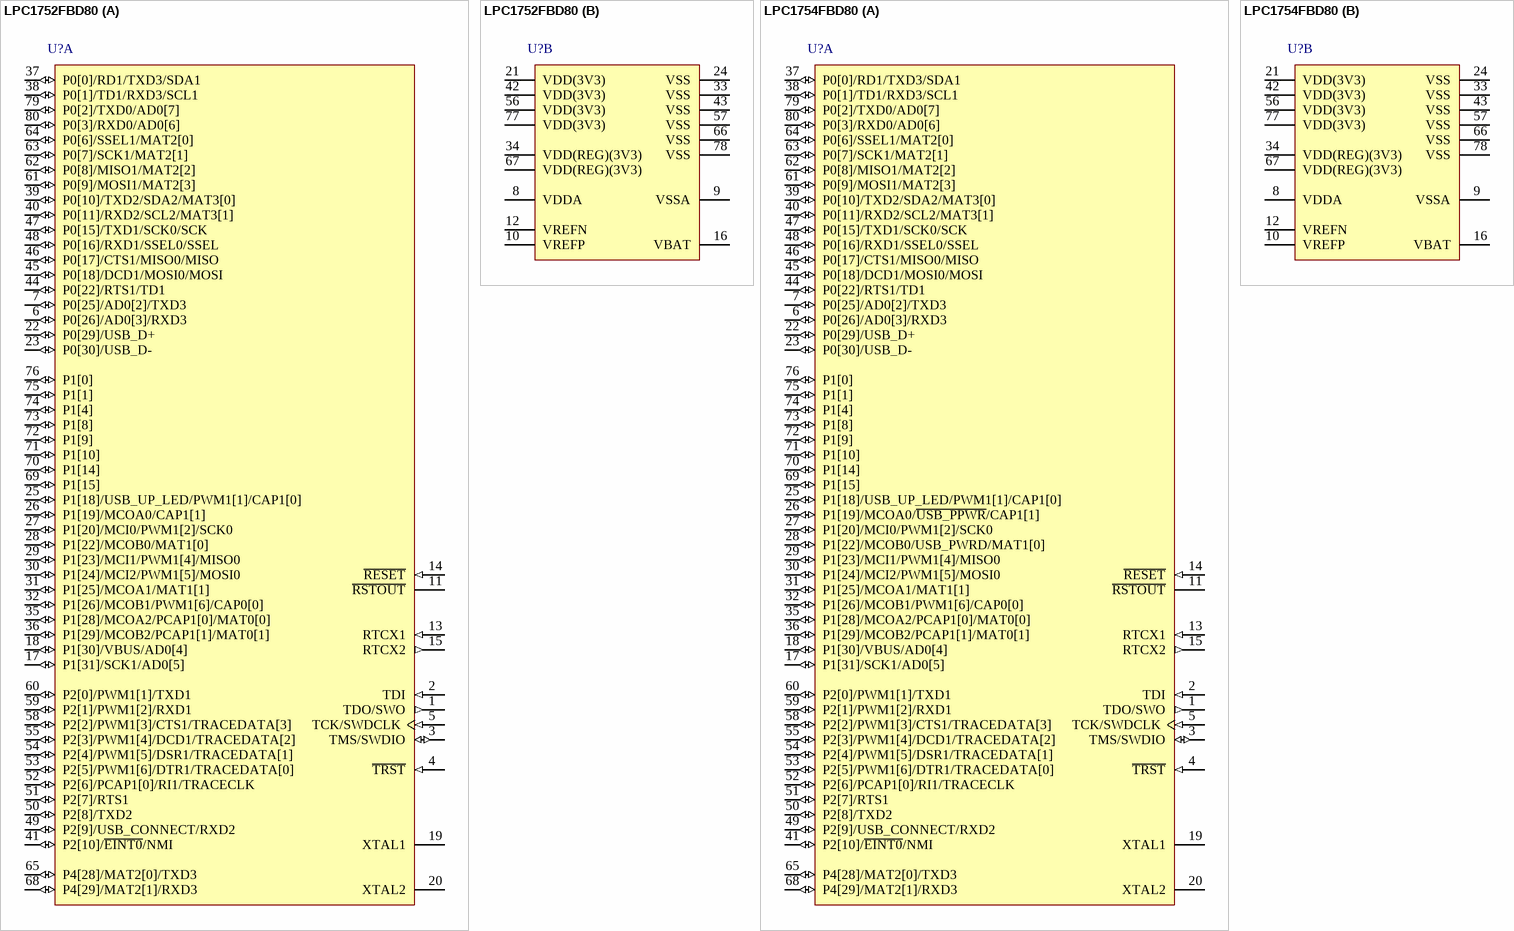
[diagram p2: symbols LPC1752FBD80 to LPC1754FBD80]

## LPC1752FBD80
designator U?
Cortex-M3, 32-Bit ARM MCU, 64 kB flash, 16 kB SRAM, 100 MHz, USB 2.0 Device, CAN, 12-Bit ADC, 80-Pin LQFP; PartNumber: LPC1752FBD80; fmax: 100 MHz; SRAM: 16 kB; Flash: 64 kB; GPIOs: 52; USB: 1; UART: 4; SSP: 2; PWM: 6; PLL: Y; VDD (min): 2.4 V; VDD (typ): 3.3 V; VDD (max): 3.6 V; Code_IEC: 136E15; DatasheetVersion: Rev. 7, Mar-2011; PackageVersion: 37677; PackageReference: SOT315-1; PackageDescription: LQFP80: Plastic Low Profile Quad Flat Package; 80 Leads; Body 12 x 12 x 1.4 mm; CAN: 1; SPI: 1; ADC channels: 6; Timers: 4; Code_JEDEC: MS-026; ComponentLink1Description: Manufacturer URL; ComponentLink1URL: http://www.nxp.com/; ComponentLink2Description: Datasheet; ComponentLink2URL: http://www.nxp.com/documents/data_sheet/LPC1759_58_56_54_52_51.pdf
footprint SOT315-1_V (Thin QFP, 80-Leads, Body 12x12mm, Pitch 0.5mm, NXP Recommended)
part A pins: 1 TDO/SWO (out), 2 TDI (in), 3 TMS/SWDIO (io), 4 ~{TRST} (in), 5 TCK/SWDCLK (in), 6 P0[26]/AD0[3]/RXD3 (io), 7 P0[25]/AD0[2]/TXD3 (io), 11 ~{RSTOUT}, 13 RTCX1 (in), 14 ~{RESET} (in), 15 RTCX2 (out), 17 P1[31]/SCK1/AD0[5] (io), 18 P1[30]/VBUS/AD0[4] (io), 19 XTAL1, 20 XTAL2, 22 P0[29]/USB_D+ (io), 23 P0[30]/USB_D- (io), 25 P1[18]/USB_UP_LED/PWM1[1]/CAP1[0] (io), 26 P1[19]/MCOA0/CAP1[1] (io), 27 P1[20]/MCI0/PWM1[2]/SCK0 (io), 28 P1[22]/MCOB0/MAT1[0] (io), 29 P1[23]/MCI1/PWM1[4]/MISO0 (io), 30 P1[24]/MCI2/PWM1[5]/MOSI0 (io), 31 P1[25]/MCOA1/MAT1[1] (io), 32 P1[26]/MCOB1/PWM1[6]/CAP0[0] (io), 35 P1[28]/MCOA2/PCAP1[0]/MAT0[0] (io), 36 P1[29]/MCOB2/PCAP1[1]/MAT0[1] (io), 37 P0[0]/RD1/TXD3/SDA1 (io), 38 P0[1]/TD1/RXD3/SCL1 (io), 39 P0[10]/TXD2/SDA2/MAT3[0] (io), 40 P0[11]/RXD2/SCL2/MAT3[1] (io), 41 P2[10]/~{EINT0}/NMI (io), 44 P0[22]/RTS1/TD1 (io), 45 P0[18]/DCD1/MOSI0/MOSI (io), 46 P0[17]/CTS1/MISO0/MISO (io), 47 P0[15]/TXD1/SCK0/SCK (io), 48 P0[16]/RXD1/SSEL0/SSEL (io), 49 P2[9]/USB_CONNECT/RXD2 (io), 50 P2[8]/TXD2 (io), 51 P2[7]/RTS1 (io), 52 P2[6]/PCAP1[0]/RI1/TRACECLK (io), 53 P2[5]/PWM1[6]/DTR1/TRACEDATA[0] (io), 54 P2[4]/PWM1[5]/DSR1/TRACEDATA[1] (io), 55 P2[3]/PWM1[4]/DCD1/TRACEDATA[2] (io), 58 P2[2]/PWM1[3]/CTS1/TRACEDATA[3] (io), 59 P2[1]/PWM1[2]/RXD1 (io), 60 P2[0]/PWM1[1]/TXD1 (io), 61 P0[9]/MOSI1/MAT2[3] (io), 62 P0[8]/MISO1/MAT2[2] (io), 63 P0[7]/SCK1/MAT2[1] (io), 64 P0[6]/SSEL1/MAT2[0] (io), 65 P4[28]/MAT2[0]/TXD3 (io), 68 P4[29]/MAT2[1]/RXD3 (io), 69 P1[15] (io), 70 P1[14] (io), 71 P1[10] (io), 72 P1[9] (io), 73 P1[8] (io), 74 P1[4] (io), 75 P1[1] (io), 76 P1[0] (io), 79 P0[2]/TXD0/AD0[7] (io), 80 P0[3]/RXD0/AD0[6] (io)
part B pins: 8 VDDA (power), 9 VSSA (power), 10 VREFP (power), 12 VREFN (power), 16 VBAT (power), 21 VDD(3V3) (power), 24 VSS (power), 33 VSS (power), 34 VDD(REG)(3V3) (power), 42 VDD(3V3) (power), 43 VSS (power), 56 VDD(3V3) (power), 57 VSS (power), 66 VSS (power), 67 VDD(REG)(3V3) (power), 77 VDD(3V3) (power), 78 VSS (power)

## LPC1754FBD80
designator U?
Cortex-M3, 32-Bit ARM MCU, 128 kB flash, 32 kB SRAM, 100 MHz, USB 2.0 Device/Host/OTG, CAN, 12-Bit ADC, DAC, 80-Pin LQFP; PartNumber: LPC1754FBD80; fmax: 100 MHz; SRAM: 32 kB; Flash: 128 kB; GPIOs: 52; USB: 1; UART: 4; SSP: 2; PWM: 6; PLL: Y; VDD (min): 2.4 V; VDD (typ): 3.3 V; VDD (max): 3.6 V; Code_IEC: 136E15; DatasheetVersion: Rev. 7, Mar-2011; PackageVersion: 37677; PackageReference: SOT315-1; PackageDescription: LQFP80: Plastic Low Profile Quad Flat Package; 80 Leads; Body 12 x 12 x 1.4 mm; CAN: 1; SPI: 1; ADC channels: 6; Timers: 4; Code_JEDEC: MS-026; ComponentLink1Description: Manufacturer URL; ComponentLink1URL: http://www.nxp.com/; ComponentLink2Description: Datasheet; ComponentLink2URL: http://www.nxp.com/documents/data_sheet/LPC1759_58_56_54_52_51.pdf
footprint SOT315-1_V (Thin QFP, 80-Leads, Body 12x12mm, Pitch 0.5mm, NXP Recommended)
part A pins: 1 TDO/SWO (out), 2 TDI (in), 3 TMS/SWDIO (io), 4 ~{TRST} (in), 5 TCK/SWDCLK (in), 6 P0[26]/AD0[3]/RXD3 (io), 7 P0[25]/AD0[2]/TXD3 (io), 11 ~{RSTOUT}, 13 RTCX1 (in), 14 ~{RESET} (in), 15 RTCX2 (out), 17 P1[31]/SCK1/AD0[5] (io), 18 P1[30]/VBUS/AD0[4] (io), 19 XTAL1, 20 XTAL2, 22 P0[29]/USB_D+ (io), 23 P0[30]/USB_D- (io), 25 P1[18]/USB_UP_LED/PWM1[1]/CAP1[0] (io), 26 P1[19]/MCOA0/~{USB_PPWR}/CAP1[1] (io), 27 P1[20]/MCI0/PWM1[2]/SCK0 (io), 28 P1[22]/MCOB0/USB_PWRD/MAT1[0] (io), 29 P1[23]/MCI1/PWM1[4]/MISO0 (io), 30 P1[24]/MCI2/PWM1[5]/MOSI0 (io), 31 P1[25]/MCOA1/MAT1[1] (io), 32 P1[26]/MCOB1/PWM1[6]/CAP0[0] (io), 35 P1[28]/MCOA2/PCAP1[0]/MAT0[0] (io), 36 P1[29]/MCOB2/PCAP1[1]/MAT0[1] (io), 37 P0[0]/RD1/TXD3/SDA1 (io), 38 P0[1]/TD1/RXD3/SCL1 (io), 39 P0[10]/TXD2/SDA2/MAT3[0] (io), 40 P0[11]/RXD2/SCL2/MAT3[1] (io), 41 P2[10]/~{EINT0}/NMI (io), 44 P0[22]/RTS1/TD1 (io), 45 P0[18]/DCD1/MOSI0/MOSI (io), 46 P0[17]/CTS1/MISO0/MISO (io), 47 P0[15]/TXD1/SCK0/SCK (io), 48 P0[16]/RXD1/SSEL0/SSEL (io), 49 P2[9]/USB_CONNECT/RXD2 (io), 50 P2[8]/TXD2 (io), 51 P2[7]/RTS1 (io), 52 P2[6]/PCAP1[0]/RI1/TRACECLK (io), 53 P2[5]/PWM1[6]/DTR1/TRACEDATA[0] (io), 54 P2[4]/PWM1[5]/DSR1/TRACEDATA[1] (io), 55 P2[3]/PWM1[4]/DCD1/TRACEDATA[2] (io), 58 P2[2]/PWM1[3]/CTS1/TRACEDATA[3] (io), 59 P2[1]/PWM1[2]/RXD1 (io), 60 P2[0]/PWM1[1]/TXD1 (io), 61 P0[9]/MOSI1/MAT2[3] (io), 62 P0[8]/MISO1/MAT2[2] (io), 63 P0[7]/SCK1/MAT2[1] (io), 64 P0[6]/SSEL1/MAT2[0] (io), 65 P4[28]/MAT2[0]/TXD3 (io), 68 P4[29]/MAT2[1]/RXD3 (io), 69 P1[15] (io), 70 P1[14] (io), 71 P1[10] (io), 72 P1[9] (io), 73 P1[8] (io), 74 P1[4] (io), 75 P1[1] (io), 76 P1[0] (io), 79 P0[2]/TXD0/AD0[7] (io), 80 P0[3]/RXD0/AD0[6] (io)
part B pins: 8 VDDA (power), 9 VSSA (power), 10 VREFP (power), 12 VREFN (power), 16 VBAT (power), 21 VDD(3V3) (power), 24 VSS (power), 33 VSS (power), 34 VDD(REG)(3V3) (power), 42 VDD(3V3) (power), 43 VSS (power), 56 VDD(3V3) (power), 57 VSS (power), 66 VSS (power), 67 VDD(REG)(3V3) (power), 77 VDD(3V3) (power), 78 VSS (power)

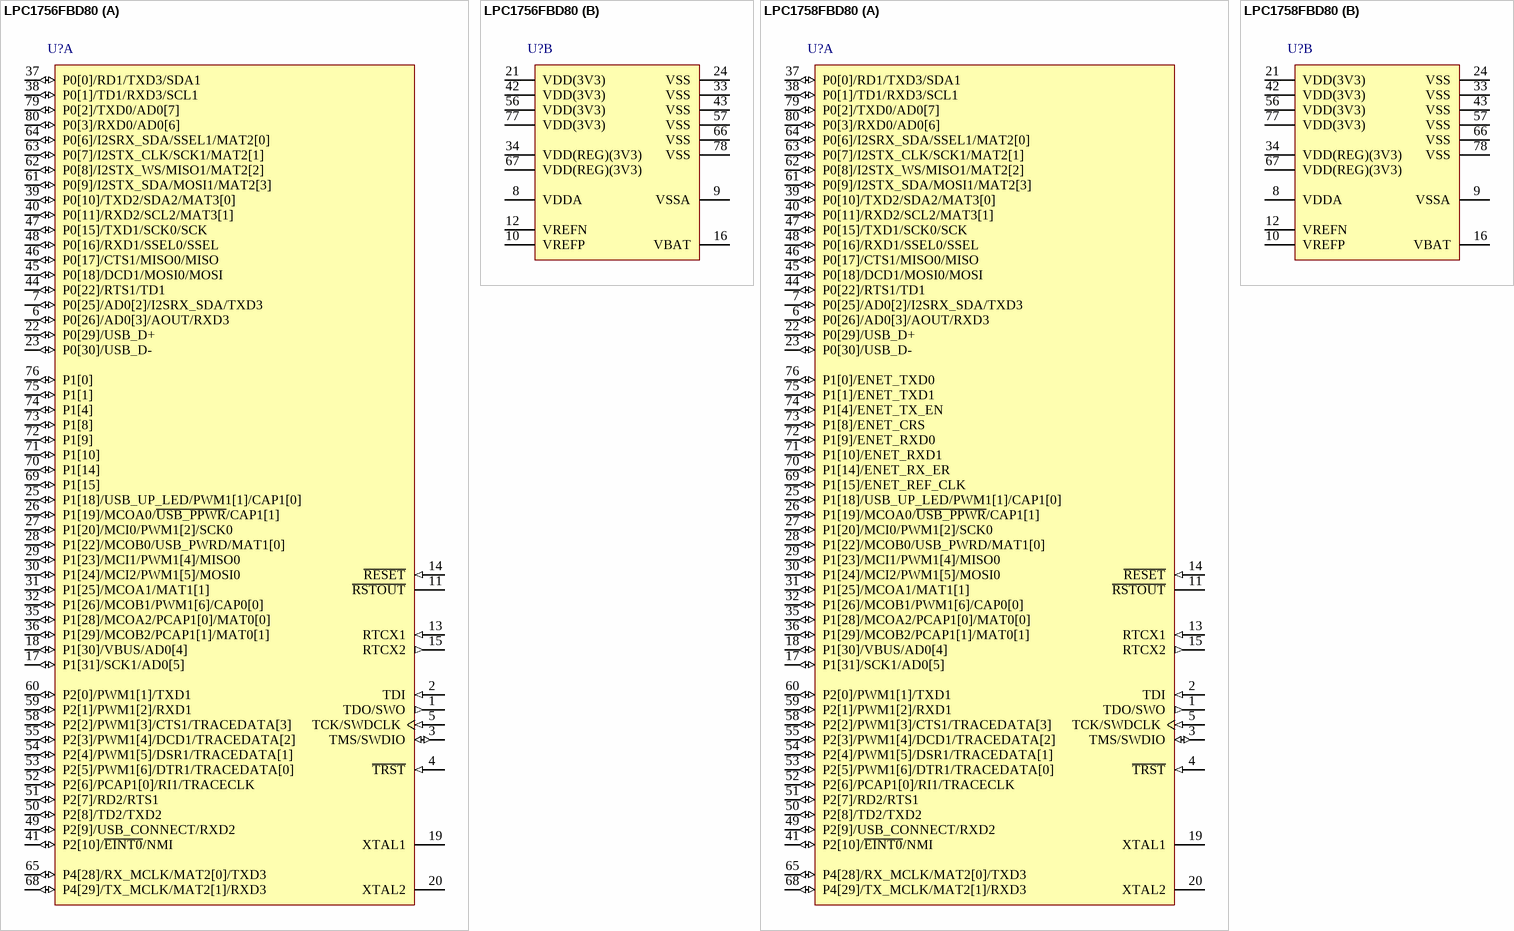
[diagram p3: symbols LPC1756FBD80 to LPC1758FBD80]

## LPC1756FBD80
designator U?
32-bit ARM Cortex-M3 MCU, 256 kB Flash, 32 kB SRAM, 100 MHz, USB 2.0 Device/Host/OTG, CAN, 12-Bit ADC, DAC, I2S, 80-Pin LQFP; PartNumber: LPC1756FBD80; fmax: 100 MHz; SRAM: 32 kB; Flash: 256 kB; GPIOs: 52; USB: 1; CAN: 2; UART: 4; PWM: 6; PLL: Y; VDD (min): 2.4 V; VDD (typ): 3.3 V; VDD (max): 3.6 V; Code_IEC: 136E15; DatasheetVersion: Rev. 7, Mar-2011; PackageVersion: Feb-2003; PackageReference: SOT315-1; PackageDescription: LQFP80: Plastic Low Profile Quad Flat Package; 80 Leads; Body 12 x 12 x 1.4 mm; SPI: 1; SSP: 2; ADC channels: 6; Timers: 4; Code_JEDEC: MS-026; ComponentLink1Description: Manufacturer URL; ComponentLink1URL: http://www.nxp.com/; ComponentLink2Description: Datasheet; ComponentLink2URL: http://www.nxp.com/documents/data_sheet/LPC1759_58_56_54_52_51.pdf
footprint SOT315-1_V (Thin QFP, 80-Leads, Body 12x12mm, Pitch 0.5mm, NXP Recommended)
part A pins: 1 TDO/SWO (out), 2 TDI (in), 3 TMS/SWDIO (io), 4 ~{TRST} (in), 5 TCK/SWDCLK (in), 6 P0[26]/AD0[3]/AOUT/RXD3 (io), 7 P0[25]/AD0[2]/I2SRX_SDA/TXD3 (io), 11 ~{RSTOUT}, 13 RTCX1 (in), 14 ~{RESET} (in), 15 RTCX2 (out), 17 P1[31]/SCK1/AD0[5] (io), 18 P1[30]/VBUS/AD0[4] (io), 19 XTAL1, 20 XTAL2, 22 P0[29]/USB_D+ (io), 23 P0[30]/USB_D- (io), 25 P1[18]/USB_UP_LED/PWM1[1]/CAP1[0] (io), 26 P1[19]/MCOA0/~{USB_PPWR}/CAP1[1] (io), 27 P1[20]/MCI0/PWM1[2]/SCK0 (io), 28 P1[22]/MCOB0/USB_PWRD/MAT1[0] (io), 29 P1[23]/MCI1/PWM1[4]/MISO0 (io), 30 P1[24]/MCI2/PWM1[5]/MOSI0 (io), 31 P1[25]/MCOA1/MAT1[1] (io), 32 P1[26]/MCOB1/PWM1[6]/CAP0[0] (io), 35 P1[28]/MCOA2/PCAP1[0]/MAT0[0] (io), 36 P1[29]/MCOB2/PCAP1[1]/MAT0[1] (io), 37 P0[0]/RD1/TXD3/SDA1 (io), 38 P0[1]/TD1/RXD3/SCL1 (io), 39 P0[10]/TXD2/SDA2/MAT3[0] (io), 40 P0[11]/RXD2/SCL2/MAT3[1] (io), 41 P2[10]/~{EINT0}/NMI (io), 44 P0[22]/RTS1/TD1 (io), 45 P0[18]/DCD1/MOSI0/MOSI (io), 46 P0[17]/CTS1/MISO0/MISO (io), 47 P0[15]/TXD1/SCK0/SCK (io), 48 P0[16]/RXD1/SSEL0/SSEL (io), 49 P2[9]/USB_CONNECT/RXD2 (io), 50 P2[8]/TD2/TXD2 (io), 51 P2[7]/RD2/RTS1 (io), 52 P2[6]/PCAP1[0]/RI1/TRACECLK (io), 53 P2[5]/PWM1[6]/DTR1/TRACEDATA[0] (io), 54 P2[4]/PWM1[5]/DSR1/TRACEDATA[1] (io), 55 P2[3]/PWM1[4]/DCD1/TRACEDATA[2] (io), 58 P2[2]/PWM1[3]/CTS1/TRACEDATA[3] (io), 59 P2[1]/PWM1[2]/RXD1 (io), 60 P2[0]/PWM1[1]/TXD1 (io), 61 P0[9]/I2STX_SDA/MOSI1/MAT2[3] (io), 62 P0[8]/I2STX_WS/MISO1/MAT2[2] (io), 63 P0[7]/I2STX_CLK/SCK1/MAT2[1] (io), 64 P0[6]/I2SRX_SDA/SSEL1/MAT2[0] (io), 65 P4[28]/RX_MCLK/MAT2[0]/TXD3 (io), 68 P4[29]/TX_MCLK/MAT2[1]/RXD3 (io), 69 P1[15] (io), 70 P1[14] (io), 71 P1[10] (io), 72 P1[9] (io), 73 P1[8] (io), 74 P1[4] (io), 75 P1[1] (io), 76 P1[0] (io), 79 P0[2]/TXD0/AD0[7] (io), 80 P0[3]/RXD0/AD0[6] (io)
part B pins: 8 VDDA (power), 9 VSSA (power), 10 VREFP (power), 12 VREFN (power), 16 VBAT (power), 21 VDD(3V3) (power), 24 VSS (power), 33 VSS (power), 34 VDD(REG)(3V3) (power), 42 VDD(3V3) (power), 43 VSS (power), 56 VDD(3V3) (power), 57 VSS (power), 66 VSS (power), 67 VDD(REG)(3V3) (power), 77 VDD(3V3) (power), 78 VSS (power)

## LPC1758FBD80
designator U?
32-bit ARM Cortex-M3 MCU, 512 kB Flash, 64 kB SRAM, 100 MHz, USB 2.0 Device/Host/OTG, Ethernet, CAN, 12-Bit ADC, DAC, I2S, 80-Pin LQFP; PartNumber: LPC1758FBD80; fmax: 100 MHz; SRAM: 64 kB; Flash: 512 kB; GPIOs: 52; USB: 1; CAN: 2; UART: 4; PWM: 6; PLL: Y; VDD (min): 2.4 V; VDD (typ): 3.3 V; VDD (max): 3.6 V; Code_IEC: 136E15; DatasheetVersion: Rev. 7, Mar-2011; PackageVersion: Feb-2003; PackageReference: SOT315-1; PackageDescription: LQFP80: Plastic Low Profile Quad Flat Package; 80 Leads; Body 12 x 12 x 1.4 mm; SPI: 1; SSP: 2; ADC channels: 6; Timers: 4; Code_JEDEC: MS-026; ComponentLink1Description: Manufacturer URL; ComponentLink1URL: http://www.nxp.com/; ComponentLink2Description: Datasheet; ComponentLink2URL: http://www.nxp.com/documents/data_sheet/LPC1759_58_56_54_52_51.pdf
footprint SOT315-1_V (Thin QFP, 80-Leads, Body 12x12mm, Pitch 0.5mm, NXP Recommended)
part A pins: 1 TDO/SWO (out), 2 TDI (in), 3 TMS/SWDIO (io), 4 ~{TRST} (in), 5 TCK/SWDCLK (in), 6 P0[26]/AD0[3]/AOUT/RXD3 (io), 7 P0[25]/AD0[2]/I2SRX_SDA/TXD3 (io), 11 ~{RSTOUT}, 13 RTCX1 (in), 14 ~{RESET} (in), 15 RTCX2 (out), 17 P1[31]/SCK1/AD0[5] (io), 18 P1[30]/VBUS/AD0[4] (io), 19 XTAL1, 20 XTAL2, 22 P0[29]/USB_D+ (io), 23 P0[30]/USB_D- (io), 25 P1[18]/USB_UP_LED/PWM1[1]/CAP1[0] (io), 26 P1[19]/MCOA0/~{USB_PPWR}/CAP1[1] (io), 27 P1[20]/MCI0/PWM1[2]/SCK0 (io), 28 P1[22]/MCOB0/USB_PWRD/MAT1[0] (io), 29 P1[23]/MCI1/PWM1[4]/MISO0 (io), 30 P1[24]/MCI2/PWM1[5]/MOSI0 (io), 31 P1[25]/MCOA1/MAT1[1] (io), 32 P1[26]/MCOB1/PWM1[6]/CAP0[0] (io), 35 P1[28]/MCOA2/PCAP1[0]/MAT0[0] (io), 36 P1[29]/MCOB2/PCAP1[1]/MAT0[1] (io), 37 P0[0]/RD1/TXD3/SDA1 (io), 38 P0[1]/TD1/RXD3/SCL1 (io), 39 P0[10]/TXD2/SDA2/MAT3[0] (io), 40 P0[11]/RXD2/SCL2/MAT3[1] (io), 41 P2[10]/~{EINT0}/NMI (io), 44 P0[22]/RTS1/TD1 (io), 45 P0[18]/DCD1/MOSI0/MOSI (io), 46 P0[17]/CTS1/MISO0/MISO (io), 47 P0[15]/TXD1/SCK0/SCK (io), 48 P0[16]/RXD1/SSEL0/SSEL (io), 49 P2[9]/USB_CONNECT/RXD2 (io), 50 P2[8]/TD2/TXD2 (io), 51 P2[7]/RD2/RTS1 (io), 52 P2[6]/PCAP1[0]/RI1/TRACECLK (io), 53 P2[5]/PWM1[6]/DTR1/TRACEDATA[0] (io), 54 P2[4]/PWM1[5]/DSR1/TRACEDATA[1] (io), 55 P2[3]/PWM1[4]/DCD1/TRACEDATA[2] (io), 58 P2[2]/PWM1[3]/CTS1/TRACEDATA[3] (io), 59 P2[1]/PWM1[2]/RXD1 (io), 60 P2[0]/PWM1[1]/TXD1 (io), 61 P0[9]/I2STX_SDA/MOSI1/MAT2[3] (io), 62 P0[8]/I2STX_WS/MISO1/MAT2[2] (io), 63 P0[7]/I2STX_CLK/SCK1/MAT2[1] (io), 64 P0[6]/I2SRX_SDA/SSEL1/MAT2[0] (io), 65 P4[28]/RX_MCLK/MAT2[0]/TXD3 (io), 68 P4[29]/TX_MCLK/MAT2[1]/RXD3 (io), 69 P1[15]/ENET_REF_CLK (io), 70 P1[14]/ENET_RX_ER (io), 71 P1[10]/ENET_RXD1 (io), 72 P1[9]/ENET_RXD0 (io), 73 P1[8]/ENET_CRS (io), 74 P1[4]/ENET_TX_EN (io), 75 P1[1]/ENET_TXD1 (io), 76 P1[0]/ENET_TXD0 (io), 79 P0[2]/TXD0/AD0[7] (io), 80 P0[3]/RXD0/AD0[6] (io)
part B pins: 8 VDDA (power), 9 VSSA (power), 10 VREFP (power), 12 VREFN (power), 16 VBAT (power), 21 VDD(3V3) (power), 24 VSS (power), 33 VSS (power), 34 VDD(REG)(3V3) (power), 42 VDD(3V3) (power), 43 VSS (power), 56 VDD(3V3) (power), 57 VSS (power), 66 VSS (power), 67 VDD(REG)(3V3) (power), 77 VDD(3V3) (power), 78 VSS (power)

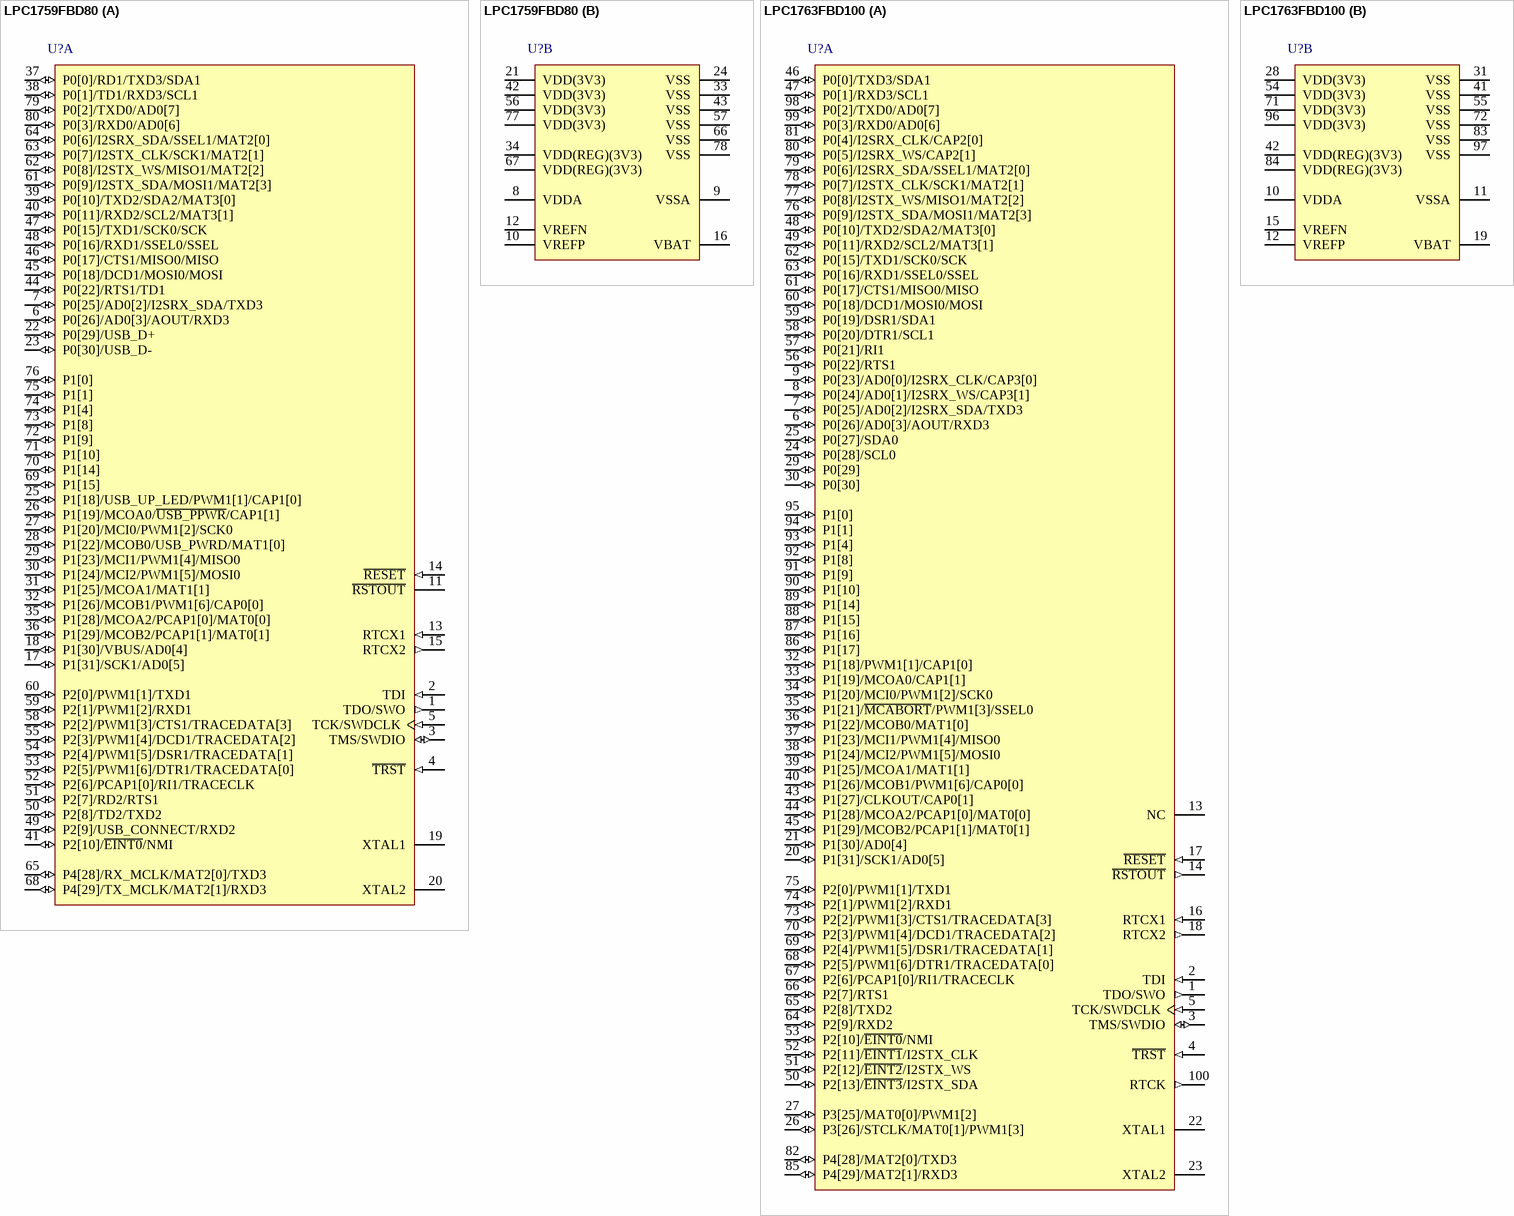
[diagram p4: symbols LPC1759FBD80 to LPC1763FBD100]

## LPC1759FBD80
designator U?
32-bit ARM Cortex-M3 MCU, 512 kB Flash, 64 kB SRAM, USB 2.0 Device/Host/OTG, CAN, 12-Bit ADC, DAC, I2S, 80-Pin LQFP; PartNumber: LPC1759FBD80; fmax: 120 MHz; SRAM: 64 kB; Flash: 512 kB; GPIOs: 52; USB: 1; CAN: 2; UART: 4; PWM: 6; PLL: Y; VDD (min): 2.4 V; VDD (typ): 3.3 V; VDD (max): 3.6 V; Code_IEC: 136E15; DatasheetVersion: Rev. 7, Mar-2011; PackageVersion: Feb-2003; PackageReference: SOT315-1; PackageDescription: LQFP80: Plastic Low Profile Quad Flat Package; 80 Leads; Body 12 x 12 x 1.4 mm; SPI: 1; SSP: 2; ADC channels: 6; Timers: 4; Code_JEDEC: MS-026; ComponentLink1Description: Manufacturer URL; ComponentLink1URL: http://www.nxp.com/; ComponentLink2Description: Datasheet; ComponentLink2URL: http://www.nxp.com/documents/data_sheet/LPC1759_58_56_54_52_51.pdf
footprint SOT315-1_V (Thin QFP, 80-Leads, Body 12x12mm, Pitch 0.5mm, NXP Recommended)
part A pins: 1 TDO/SWO (out), 2 TDI (in), 3 TMS/SWDIO (io), 4 ~{TRST} (in), 5 TCK/SWDCLK (in), 6 P0[26]/AD0[3]/AOUT/RXD3 (io), 7 P0[25]/AD0[2]/I2SRX_SDA/TXD3 (io), 11 ~{RSTOUT}, 13 RTCX1 (in), 14 ~{RESET} (in), 15 RTCX2 (out), 17 P1[31]/SCK1/AD0[5] (io), 18 P1[30]/VBUS/AD0[4] (io), 19 XTAL1, 20 XTAL2, 22 P0[29]/USB_D+ (io), 23 P0[30]/USB_D- (io), 25 P1[18]/USB_UP_LED/PWM1[1]/CAP1[0] (io), 26 P1[19]/MCOA0/~{USB_PPWR}/CAP1[1] (io), 27 P1[20]/MCI0/PWM1[2]/SCK0 (io), 28 P1[22]/MCOB0/USB_PWRD/MAT1[0] (io), 29 P1[23]/MCI1/PWM1[4]/MISO0 (io), 30 P1[24]/MCI2/PWM1[5]/MOSI0 (io), 31 P1[25]/MCOA1/MAT1[1] (io), 32 P1[26]/MCOB1/PWM1[6]/CAP0[0] (io), 35 P1[28]/MCOA2/PCAP1[0]/MAT0[0] (io), 36 P1[29]/MCOB2/PCAP1[1]/MAT0[1] (io), 37 P0[0]/RD1/TXD3/SDA1 (io), 38 P0[1]/TD1/RXD3/SCL1 (io), 39 P0[10]/TXD2/SDA2/MAT3[0] (io), 40 P0[11]/RXD2/SCL2/MAT3[1] (io), 41 P2[10]/~{EINT0}/NMI (io), 44 P0[22]/RTS1/TD1 (io), 45 P0[18]/DCD1/MOSI0/MOSI (io), 46 P0[17]/CTS1/MISO0/MISO (io), 47 P0[15]/TXD1/SCK0/SCK (io), 48 P0[16]/RXD1/SSEL0/SSEL (io), 49 P2[9]/USB_CONNECT/RXD2 (io), 50 P2[8]/TD2/TXD2 (io), 51 P2[7]/RD2/RTS1 (io), 52 P2[6]/PCAP1[0]/RI1/TRACECLK (io), 53 P2[5]/PWM1[6]/DTR1/TRACEDATA[0] (io), 54 P2[4]/PWM1[5]/DSR1/TRACEDATA[1] (io), 55 P2[3]/PWM1[4]/DCD1/TRACEDATA[2] (io), 58 P2[2]/PWM1[3]/CTS1/TRACEDATA[3] (io), 59 P2[1]/PWM1[2]/RXD1 (io), 60 P2[0]/PWM1[1]/TXD1 (io), 61 P0[9]/I2STX_SDA/MOSI1/MAT2[3] (io), 62 P0[8]/I2STX_WS/MISO1/MAT2[2] (io), 63 P0[7]/I2STX_CLK/SCK1/MAT2[1] (io), 64 P0[6]/I2SRX_SDA/SSEL1/MAT2[0] (io), 65 P4[28]/RX_MCLK/MAT2[0]/TXD3 (io), 68 P4[29]/TX_MCLK/MAT2[1]/RXD3 (io), 69 P1[15] (io), 70 P1[14] (io), 71 P1[10] (io), 72 P1[9] (io), 73 P1[8] (io), 74 P1[4] (io), 75 P1[1] (io), 76 P1[0] (io), 79 P0[2]/TXD0/AD0[7] (io), 80 P0[3]/RXD0/AD0[6] (io)
part B pins: 8 VDDA (power), 9 VSSA (power), 10 VREFP (power), 12 VREFN (power), 16 VBAT (power), 21 VDD(3V3) (power), 24 VSS (power), 33 VSS (power), 34 VDD(REG)(3V3) (power), 42 VDD(3V3) (power), 43 VSS (power), 56 VDD(3V3) (power), 57 VSS (power), 66 VSS (power), 67 VDD(REG)(3V3) (power), 77 VDD(3V3) (power), 78 VSS (power)

## LPC1763FBD100
designator U?
32-bit ARM Cortex-M3 MCU, 256 kB Flash, 64 kB SRAM, 12-Bit ADC, DAC, I2S, 100-Pin LQFP; PartNumber: LPC1763FBD100; fmax: 100 MHz; SRAM: 64 kB; Flash: 256 kB; GPIOs: 70; UART: 4; SPI: 1; SSP: 2; PWM: 6; PLL: Y; ADC channels: 8; VDD (min): 2.4 V; VDD (typ): 3.3 V; VDD (max): 3.6 V; Code_IEC: 136E20; DatasheetVersion: Rev. 8, Nov-2011; PackageVersion: Feb-2003; PackageReference: SOT407-1; PackageDescription: LQFP100: Plastic Low Profile Quad Flat Package; 100 Leads; Body 14 x 14 x 1.4 mm; Timers: 4; Code_JEDEC: MS-026; ComponentLink1Description: Manufacturer URL; ComponentLink1URL: http://www.nxp.com/; ComponentLink2Description: Datasheet; ComponentLink2URL: http://www.nxp.com/documents/data_sheet/LPC1769_68_67_66_65_64_63.pdf
footprint SOT407-1_V (Thin QFP, 100-Leads, Body 14x14mm, Pitch 0.5mm, NXP Recommended)
footprint SOT407-1_N (Thin QFP, 100-Leads, Body 14x14mm, Pitch 0.5mm, IPC Medium Density)
footprint SOT407-1_L (Thin QFP, 100-Leads, Body 14x14mm, Pitch 0.5mm, IPC High Density)
footprint SOT407-1_M (Thin QFP, 100-Leads, Body 14x14mm, Pitch 0.5mm, IPC Low Density)
part A pins: 1 TDO/SWO (out), 2 TDI (in), 3 TMS/SWDIO (io), 4 ~{TRST} (in), 5 TCK/SWDCLK (in), 6 P0[26]/AD0[3]/AOUT/RXD3 (io), 7 P0[25]/AD0[2]/I2SRX_SDA/TXD3 (io), 8 P0[24]/AD0[1]/I2SRX_WS/CAP3[1] (io), 9 P0[23]/AD0[0]/I2SRX_CLK/CAP3[0] (io), 13 NC, 14 ~{RSTOUT} (out), 16 RTCX1 (in), 17 ~{RESET} (in), 18 RTCX2 (out), 20 P1[31]/SCK1/AD0[5] (io), 21 P1[30]/AD0[4] (io), 22 XTAL1, 23 XTAL2, 24 P0[28]/SCL0 (io), 25 P0[27]/SDA0 (io), 26 P3[26]/STCLK/MAT0[1]/PWM1[3] (io), 27 P3[25]/MAT0[0]/PWM1[2] (io), 29 P0[29] (io), 30 P0[30] (io), 32 P1[18]/PWM1[1]/CAP1[0] (io), 33 P1[19]/MCOA0/CAP1[1] (io), 34 P1[20]/MCI0/PWM1[2]/SCK0 (io), 35 P1[21]/~{MCABORT}/PWM1[3]/SSEL0 (io), 36 P1[22]/MCOB0/MAT1[0] (io), 37 P1[23]/MCI1/PWM1[4]/MISO0 (io), 38 P1[24]/MCI2/PWM1[5]/MOSI0 (io), 39 P1[25]/MCOA1/MAT1[1] (io), 40 P1[26]/MCOB1/PWM1[6]/CAP0[0] (io), 43 P1[27]/CLKOUT/CAP0[1] (io), 44 P1[28]/MCOA2/PCAP1[0]/MAT0[0] (io), 45 P1[29]/MCOB2/PCAP1[1]/MAT0[1] (io), 46 P0[0]/TXD3/SDA1 (io), 47 P0[1]/RXD3/SCL1 (io), 48 P0[10]/TXD2/SDA2/MAT3[0] (io), 49 P0[11]/RXD2/SCL2/MAT3[1] (io), 50 P2[13]/~{EINT3}/I2STX_SDA (io), 51 P2[12]/~{EINT2}/I2STX_WS (io), 52 P2[11]/~{EINT1}/I2STX_CLK (io), 53 P2[10]/~{EINT0}/NMI (io), 56 P0[22]/RTS1 (io), 57 P0[21]/RI1 (io), 58 P0[20]/DTR1/SCL1 (io), 59 P0[19]/DSR1/SDA1 (io), 60 P0[18]/DCD1/MOSI0/MOSI (io), 61 P0[17]/CTS1/MISO0/MISO (io), 62 P0[15]/TXD1/SCK0/SCK (io), 63 P0[16]/RXD1/SSEL0/SSEL (io), 64 P2[9]/RXD2 (io), 65 P2[8]/TXD2 (io), 66 P2[7]/RTS1 (io), 67 P2[6]/PCAP1[0]/RI1/TRACECLK (io), 68 P2[5]/PWM1[6]/DTR1/TRACEDATA[0] (io), 69 P2[4]/PWM1[5]/DSR1/TRACEDATA[1] (io), 70 P2[3]/PWM1[4]/DCD1/TRACEDATA[2] (io), 73 P2[2]/PWM1[3]/CTS1/TRACEDATA[3] (io), 74 P2[1]/PWM1[2]/RXD1 (io), 75 P2[0]/PWM1[1]/TXD1 (io), 76 P0[9]/I2STX_SDA/MOSI1/MAT2[3] (io), 77 P0[8]/I2STX_WS/MISO1/MAT2[2] (io), 78 P0[7]/I2STX_CLK/SCK1/MAT2[1] (io), 79 P0[6]/I2SRX_SDA/SSEL1/MAT2[0] (io), 80 P0[5]/I2SRX_WS/CAP2[1] (io), 81 P0[4]/I2SRX_CLK/CAP2[0] (io), 82 P4[28]/MAT2[0]/TXD3 (io), 85 P4[29]/MAT2[1]/RXD3 (io), 86 P1[17] (io), 87 P1[16] (io), 88 P1[15] (io), 89 P1[14] (io), 90 P1[10] (io), 91 P1[9] (io), 92 P1[8] (io), 93 P1[4] (io), 94 P1[1] (io), 95 P1[0] (io), 98 P0[2]/TXD0/AD0[7] (io), 99 P0[3]/RXD0/AD0[6] (io), 100 RTCK (out)
part B pins: 10 VDDA (power), 11 VSSA (power), 12 VREFP (power), 15 VREFN (power), 19 VBAT (power), 28 VDD(3V3) (power), 31 VSS (power), 41 VSS (power), 42 VDD(REG)(3V3) (power), 54 VDD(3V3) (power), 55 VSS (power), 71 VDD(3V3) (power), 72 VSS (power), 83 VSS (power), 84 VDD(REG)(3V3) (power), 96 VDD(3V3) (power), 97 VSS (power)

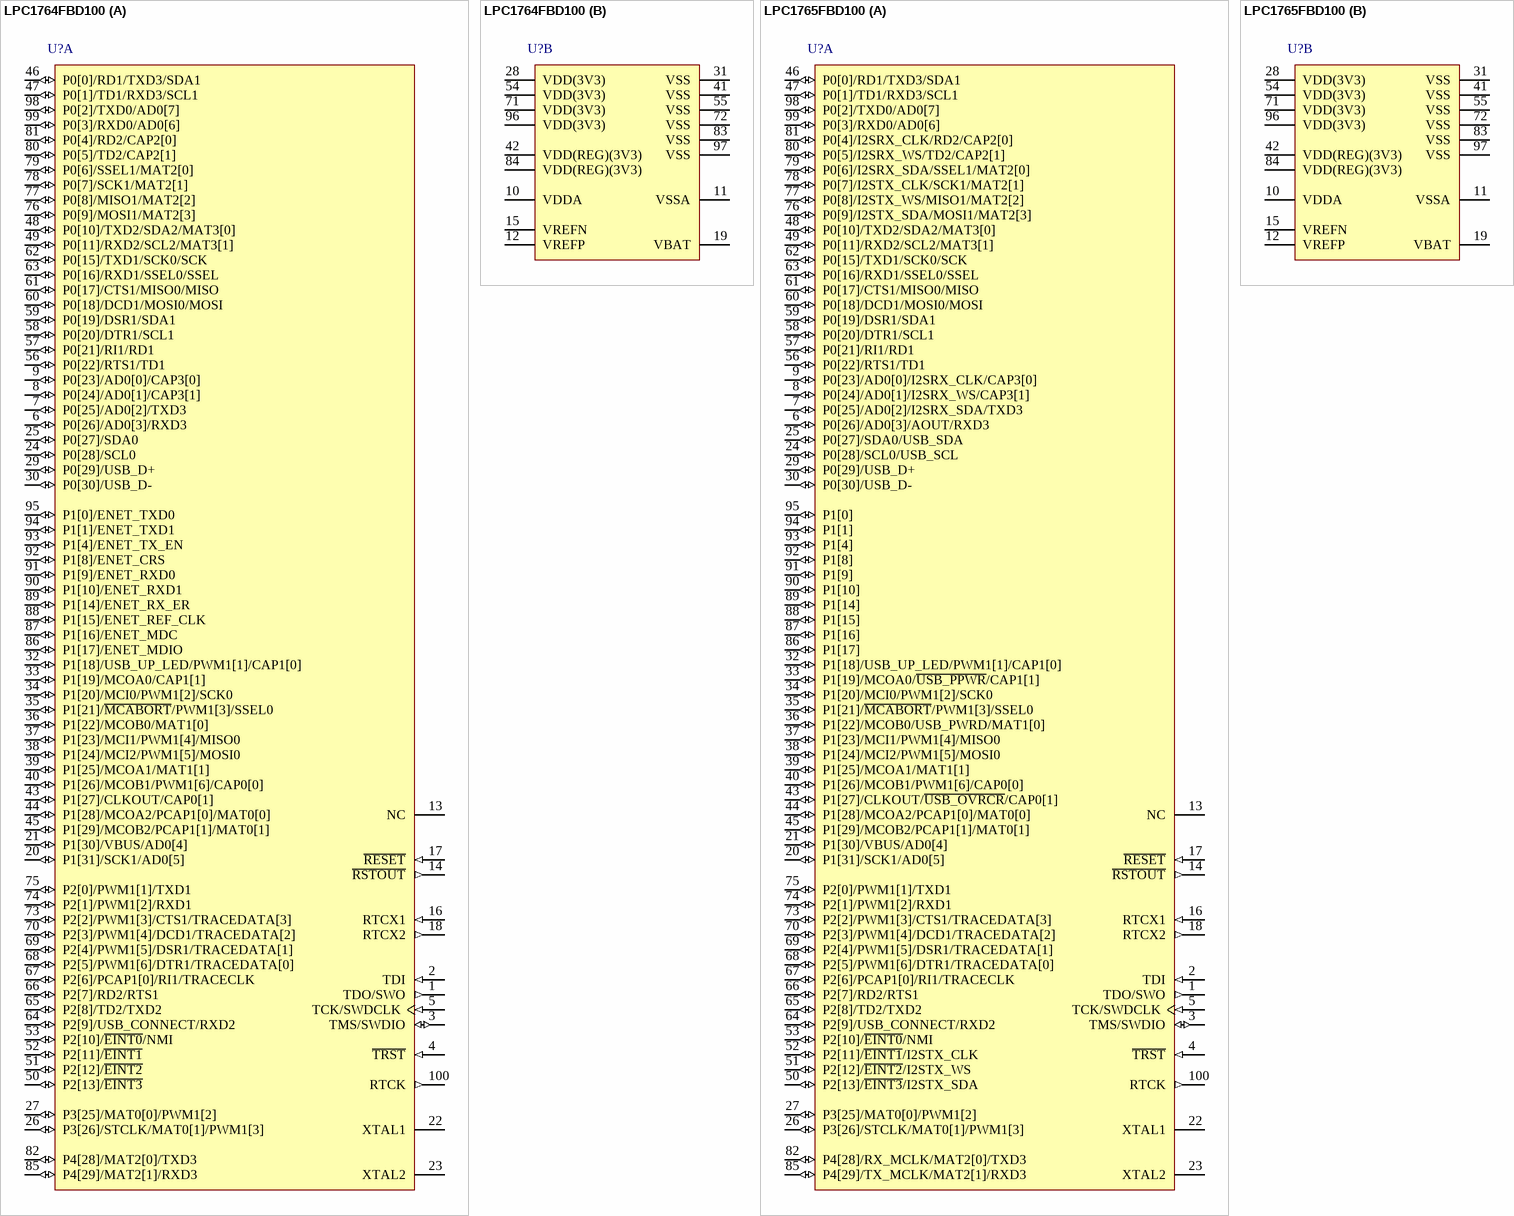
[diagram p5: symbols LPC1764FBD100 to LPC1765FBD100]

## LPC1764FBD100
designator U?
Cortex-M3, 32-Bit ARM MCU, 128 kB flash, 32 kB SRAM, Ethernet, USB 2.0 Device, CAN, 12-Bit ADC, 100-Pin LQFP; PartNumber: LPC1764FBD100; fmax: 100 MHz; SRAM: 32 kB; Flash: 128 kB; GPIOs: 70; USB: 1; CAN: 2; UART: 4; PWM: 6; PLL: Y; ADC channels: 8; VDD (min): 2.4 V; VDD (typ): 3.3 V; VDD (max): 3.6 V; Code_IEC: 136E20; DatasheetVersion: Rev. 8, Nov-2011; PackageVersion: 37672; PackageReference: SOT407-1; PackageDescription: LQFP100: Plastic Low Profile Quad Flat Package; 100 Leads; Body 14 x 14 x 1.4 mm; SPI: 1; SSP: 2; Timers: 4; Code_JEDEC: MS-026; ComponentLink1Description: Manufacturer URL; ComponentLink1URL: http://www.nxp.com/; ComponentLink2Description: Datasheet; ComponentLink2URL: http://www.nxp.com/documents/data_sheet/LPC1769_68_67_66_65_64_63.pdf
footprint SOT407-1_V (Thin QFP, 100-Leads, Body 14x14mm, Pitch 0.5mm, NXP Recommended)
footprint SOT407-1_N (Thin QFP, 100-Leads, Body 14x14mm, Pitch 0.5mm, IPC Medium Density)
footprint SOT407-1_L (Thin QFP, 100-Leads, Body 14x14mm, Pitch 0.5mm, IPC High Density)
footprint SOT407-1_M (Thin QFP, 100-Leads, Body 14x14mm, Pitch 0.5mm, IPC Low Density)
part A pins: 1 TDO/SWO (out), 2 TDI (in), 3 TMS/SWDIO (io), 4 ~{TRST} (in), 5 TCK/SWDCLK (in), 6 P0[26]/AD0[3]/RXD3 (io), 7 P0[25]/AD0[2]/TXD3 (io), 8 P0[24]/AD0[1]/CAP3[1] (io), 9 P0[23]/AD0[0]/CAP3[0] (io), 13 NC, 14 ~{RSTOUT} (out), 16 RTCX1 (in), 17 ~{RESET} (in), 18 RTCX2 (out), 20 P1[31]/SCK1/AD0[5] (io), 21 P1[30]/VBUS/AD0[4] (io), 22 XTAL1, 23 XTAL2, 24 P0[28]/SCL0 (io), 25 P0[27]/SDA0 (io), 26 P3[26]/STCLK/MAT0[1]/PWM1[3] (io), 27 P3[25]/MAT0[0]/PWM1[2] (io), 29 P0[29]/USB_D+ (io), 30 P0[30]/USB_D- (io), 32 P1[18]/USB_UP_LED/PWM1[1]/CAP1[0] (io), 33 P1[19]/MCOA0/CAP1[1] (io), 34 P1[20]/MCI0/PWM1[2]/SCK0 (io), 35 P1[21]/~{MCABORT}/PWM1[3]/SSEL0 (io), 36 P1[22]/MCOB0/MAT1[0] (io), 37 P1[23]/MCI1/PWM1[4]/MISO0 (io), 38 P1[24]/MCI2/PWM1[5]/MOSI0 (io), 39 P1[25]/MCOA1/MAT1[1] (io), 40 P1[26]/MCOB1/PWM1[6]/CAP0[0] (io), 43 P1[27]/CLKOUT/CAP0[1] (io), 44 P1[28]/MCOA2/PCAP1[0]/MAT0[0] (io), 45 P1[29]/MCOB2/PCAP1[1]/MAT0[1] (io), 46 P0[0]/RD1/TXD3/SDA1 (io), 47 P0[1]/TD1/RXD3/SCL1 (io), 48 P0[10]/TXD2/SDA2/MAT3[0] (io), 49 P0[11]/RXD2/SCL2/MAT3[1] (io), 50 P2[13]/~{EINT3} (io), 51 P2[12]/~{EINT2} (io), 52 P2[11]/~{EINT1} (io), 53 P2[10]/~{EINT0}/NMI (io), 56 P0[22]/RTS1/TD1 (io), 57 P0[21]/RI1/RD1 (io), 58 P0[20]/DTR1/SCL1 (io), 59 P0[19]/DSR1/SDA1 (io), 60 P0[18]/DCD1/MOSI0/MOSI (io), 61 P0[17]/CTS1/MISO0/MISO (io), 62 P0[15]/TXD1/SCK0/SCK (io), 63 P0[16]/RXD1/SSEL0/SSEL (io), 64 P2[9]/USB_CONNECT/RXD2 (io), 65 P2[8]/TD2/TXD2 (io), 66 P2[7]/RD2/RTS1 (io), 67 P2[6]/PCAP1[0]/RI1/TRACECLK (io), 68 P2[5]/PWM1[6]/DTR1/TRACEDATA[0] (io), 69 P2[4]/PWM1[5]/DSR1/TRACEDATA[1] (io), 70 P2[3]/PWM1[4]/DCD1/TRACEDATA[2] (io), 73 P2[2]/PWM1[3]/CTS1/TRACEDATA[3] (io), 74 P2[1]/PWM1[2]/RXD1 (io), 75 P2[0]/PWM1[1]/TXD1 (io), 76 P0[9]/MOSI1/MAT2[3] (io), 77 P0[8]/MISO1/MAT2[2] (io), 78 P0[7]/SCK1/MAT2[1] (io), 79 P0[6]/SSEL1/MAT2[0] (io), 80 P0[5]/TD2/CAP2[1] (io), 81 P0[4]/RD2/CAP2[0] (io), 82 P4[28]/MAT2[0]/TXD3 (io), 85 P4[29]/MAT2[1]/RXD3 (io), 86 P1[17]/ENET_MDIO (io), 87 P1[16]/ENET_MDC (io), 88 P1[15]/ENET_REF_CLK (io), 89 P1[14]/ENET_RX_ER (io), 90 P1[10]/ENET_RXD1 (io), 91 P1[9]/ENET_RXD0 (io), 92 P1[8]/ENET_CRS (io), 93 P1[4]/ENET_TX_EN (io), 94 P1[1]/ENET_TXD1 (io), 95 P1[0]/ENET_TXD0 (io), 98 P0[2]/TXD0/AD0[7] (io), 99 P0[3]/RXD0/AD0[6] (io), 100 RTCK (out)
part B pins: 10 VDDA (power), 11 VSSA (power), 12 VREFP (power), 15 VREFN (power), 19 VBAT (power), 28 VDD(3V3) (power), 31 VSS (power), 41 VSS (power), 42 VDD(REG)(3V3) (power), 54 VDD(3V3) (power), 55 VSS (power), 71 VDD(3V3) (power), 72 VSS (power), 83 VSS (power), 84 VDD(REG)(3V3) (power), 96 VDD(3V3) (power), 97 VSS (power)

## LPC1765FBD100
designator U?
Cortex-M3, 32-Bit ARM MCU, 256 kB flash, 64 kB SRAM, USB 2.0 Device/Host/OTG, CAN, 12-Bit ADC, DAC, I2S, 100-Pin LQFP; PartNumber: LPC1765FBD100; fmax: 100 MHz; SRAM: 64 kB; Flash: 256 kB; GPIOs: 70; USB: 1; CAN: 2; UART: 4; PWM: 6; PLL: Y; ADC channels: 8; VDD (min): 2.4 V; VDD (typ): 3.3 V; VDD (max): 3.6 V; Code_IEC: 136E20; DatasheetVersion: Rev. 8, Nov-2011; PackageVersion: 37672; PackageReference: SOT407-1; PackageDescription: LQFP100: Plastic Low Profile Quad Flat Package; 100 Leads; Body 14 x 14 x 1.4 mm; SPI: 1; SSP: 2; Timers: 4; Code_JEDEC: MS-026; ComponentLink1Description: Manufacturer URL; ComponentLink1URL: http://www.nxp.com/; ComponentLink2Description: Datasheet; ComponentLink2URL: http://www.nxp.com/documents/data_sheet/LPC1769_68_67_66_65_64_63.pdf
footprint SOT407-1_V (Thin QFP, 100-Leads, Body 14x14mm, Pitch 0.5mm, NXP Recommended)
footprint SOT407-1_N (Thin QFP, 100-Leads, Body 14x14mm, Pitch 0.5mm, IPC Medium Density)
footprint SOT407-1_L (Thin QFP, 100-Leads, Body 14x14mm, Pitch 0.5mm, IPC High Density)
footprint SOT407-1_M (Thin QFP, 100-Leads, Body 14x14mm, Pitch 0.5mm, IPC Low Density)
part A pins: 1 TDO/SWO (out), 2 TDI (in), 3 TMS/SWDIO (io), 4 ~{TRST} (in), 5 TCK/SWDCLK (in), 6 P0[26]/AD0[3]/AOUT/RXD3 (io), 7 P0[25]/AD0[2]/I2SRX_SDA/TXD3 (io), 8 P0[24]/AD0[1]/I2SRX_WS/CAP3[1] (io), 9 P0[23]/AD0[0]/I2SRX_CLK/CAP3[0] (io), 13 NC, 14 ~{RSTOUT} (out), 16 RTCX1 (in), 17 ~{RESET} (in), 18 RTCX2 (out), 20 P1[31]/SCK1/AD0[5] (io), 21 P1[30]/VBUS/AD0[4] (io), 22 XTAL1, 23 XTAL2, 24 P0[28]/SCL0/USB_SCL (io), 25 P0[27]/SDA0/USB_SDA (io), 26 P3[26]/STCLK/MAT0[1]/PWM1[3] (io), 27 P3[25]/MAT0[0]/PWM1[2] (io), 29 P0[29]/USB_D+ (io), 30 P0[30]/USB_D- (io), 32 P1[18]/USB_UP_LED/PWM1[1]/CAP1[0] (io), 33 P1[19]/MCOA0/~{USB_PPWR}/CAP1[1] (io), 34 P1[20]/MCI0/PWM1[2]/SCK0 (io), 35 P1[21]/~{MCABORT}/PWM1[3]/SSEL0 (io), 36 P1[22]/MCOB0/USB_PWRD/MAT1[0] (io), 37 P1[23]/MCI1/PWM1[4]/MISO0 (io), 38 P1[24]/MCI2/PWM1[5]/MOSI0 (io), 39 P1[25]/MCOA1/MAT1[1] (io), 40 P1[26]/MCOB1/PWM1[6]/CAP0[0] (io), 43 P1[27]/CLKOUT/~{USB_OVRCR}/CAP0[1] (io), 44 P1[28]/MCOA2/PCAP1[0]/MAT0[0] (io), 45 P1[29]/MCOB2/PCAP1[1]/MAT0[1] (io), 46 P0[0]/RD1/TXD3/SDA1 (io), 47 P0[1]/TD1/RXD3/SCL1 (io), 48 P0[10]/TXD2/SDA2/MAT3[0] (io), 49 P0[11]/RXD2/SCL2/MAT3[1] (io), 50 P2[13]/~{EINT3}/I2STX_SDA (io), 51 P2[12]/~{EINT2}/I2STX_WS (io), 52 P2[11]/~{EINT1}/I2STX_CLK (io), 53 P2[10]/~{EINT0}/NMI (io), 56 P0[22]/RTS1/TD1 (io), 57 P0[21]/RI1/RD1 (io), 58 P0[20]/DTR1/SCL1 (io), 59 P0[19]/DSR1/SDA1 (io), 60 P0[18]/DCD1/MOSI0/MOSI (io), 61 P0[17]/CTS1/MISO0/MISO (io), 62 P0[15]/TXD1/SCK0/SCK (io), 63 P0[16]/RXD1/SSEL0/SSEL (io), 64 P2[9]/USB_CONNECT/RXD2 (io), 65 P2[8]/TD2/TXD2 (io), 66 P2[7]/RD2/RTS1 (io), 67 P2[6]/PCAP1[0]/RI1/TRACECLK (io), 68 P2[5]/PWM1[6]/DTR1/TRACEDATA[0] (io), 69 P2[4]/PWM1[5]/DSR1/TRACEDATA[1] (io), 70 P2[3]/PWM1[4]/DCD1/TRACEDATA[2] (io), 73 P2[2]/PWM1[3]/CTS1/TRACEDATA[3] (io), 74 P2[1]/PWM1[2]/RXD1 (io), 75 P2[0]/PWM1[1]/TXD1 (io), 76 P0[9]/I2STX_SDA/MOSI1/MAT2[3] (io), 77 P0[8]/I2STX_WS/MISO1/MAT2[2] (io), 78 P0[7]/I2STX_CLK/SCK1/MAT2[1] (io), 79 P0[6]/I2SRX_SDA/SSEL1/MAT2[0] (io), 80 P0[5]/I2SRX_WS/TD2/CAP2[1] (io), 81 P0[4]/I2SRX_CLK/RD2/CAP2[0] (io), 82 P4[28]/RX_MCLK/MAT2[0]/TXD3 (io), 85 P4[29]/TX_MCLK/MAT2[1]/RXD3 (io), 86 P1[17] (io), 87 P1[16] (io), 88 P1[15] (io), 89 P1[14] (io), 90 P1[10] (io), 91 P1[9] (io), 92 P1[8] (io), 93 P1[4] (io), 94 P1[1] (io), 95 P1[0] (io), 98 P0[2]/TXD0/AD0[7] (io), 99 P0[3]/RXD0/AD0[6] (io), 100 RTCK (out)
part B pins: 10 VDDA (power), 11 VSSA (power), 12 VREFP (power), 15 VREFN (power), 19 VBAT (power), 28 VDD(3V3) (power), 31 VSS (power), 41 VSS (power), 42 VDD(REG)(3V3) (power), 54 VDD(3V3) (power), 55 VSS (power), 71 VDD(3V3) (power), 72 VSS (power), 83 VSS (power), 84 VDD(REG)(3V3) (power), 96 VDD(3V3) (power), 97 VSS (power)

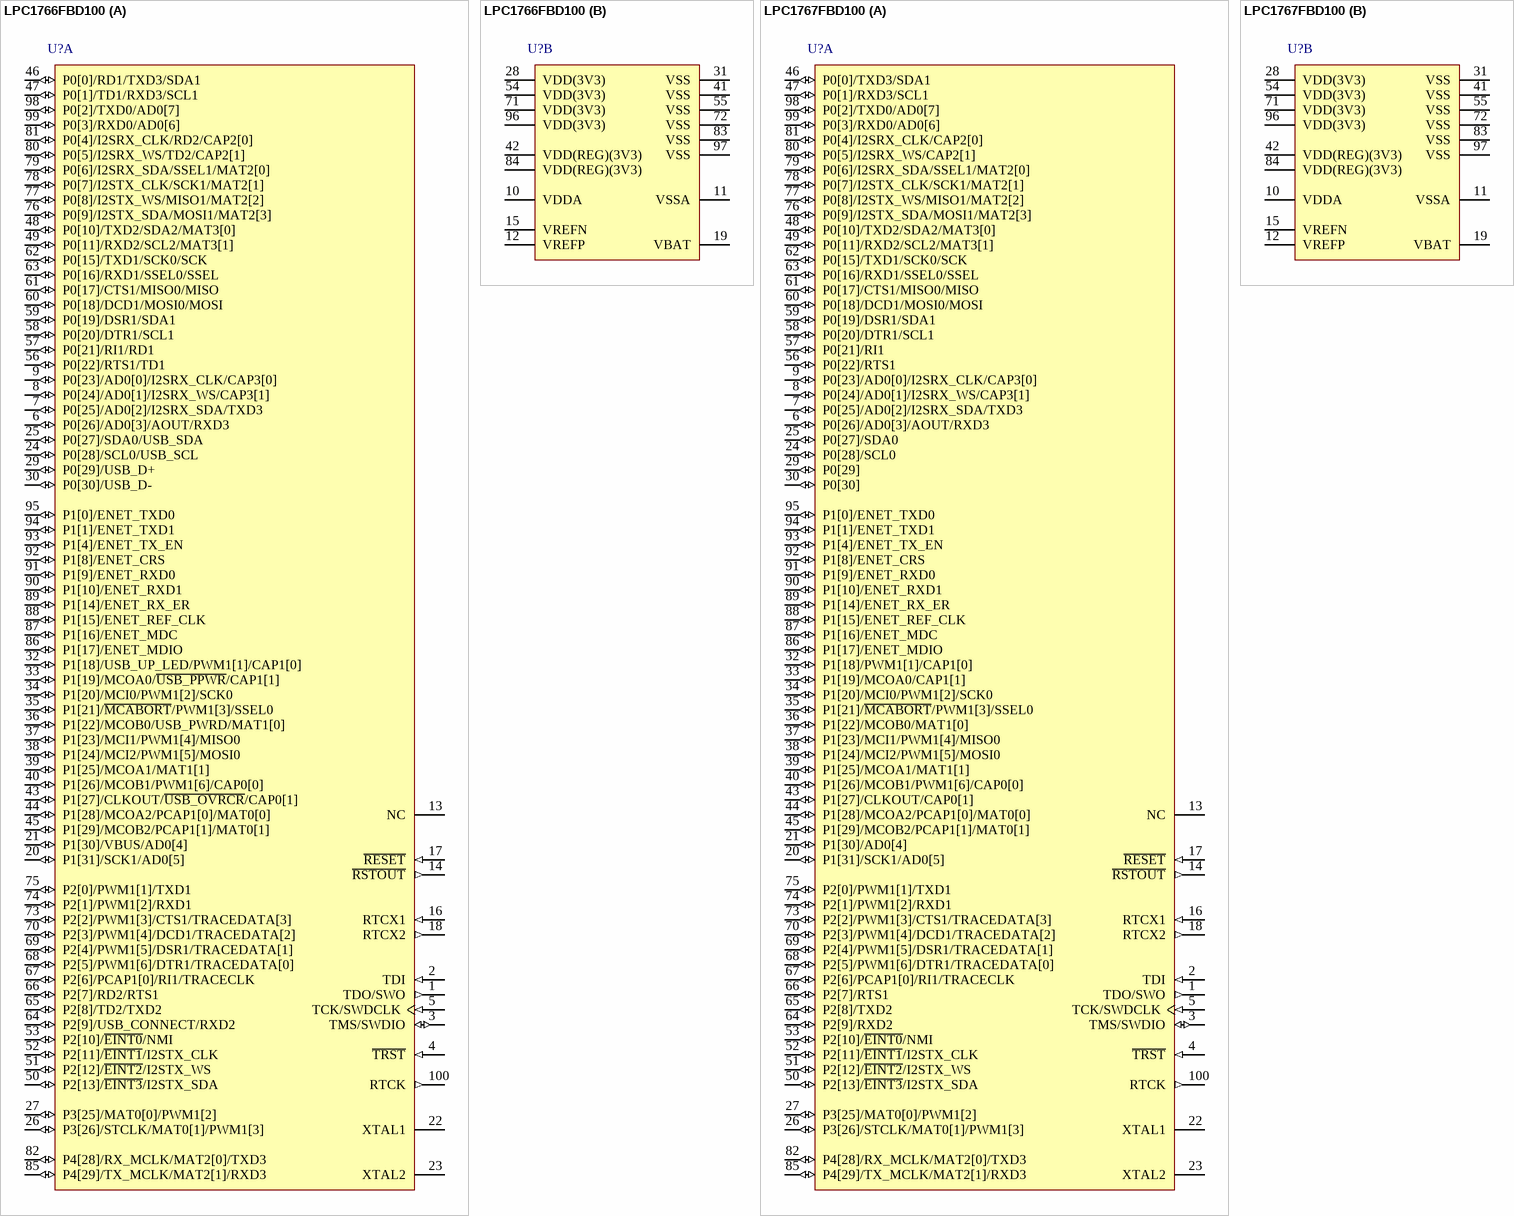
[diagram p6: symbols LPC1766FBD100 to LPC1767FBD100]

## LPC1766FBD100
designator U?
Cortex-M3, 32-Bit ARM MCU, 256 kB flash, 64 kB SRAM, Ethernet, USB 2.0 Device/Host/OTG, CAN, 12-Bit ADC, DAC, I2S, 100-Pin LQFP; PartNumber: LPC1766FBD100; fmax: 100 MHz; SRAM: 64 kB; Flash: 256 kB; GPIOs: 70; USB: 1; CAN: 2; UART: 4; PWM: 6; PLL: Y; ADC channels: 8; VDD (min): 2.4 V; VDD (typ): 3.3 V; VDD (max): 3.6 V; Code_IEC: 136E20; DatasheetVersion: Rev. 8, Nov-2011; PackageVersion: 37672; PackageReference: SOT407-1; PackageDescription: LQFP100: Plastic Low Profile Quad Flat Package; 100 Leads; Body 14 x 14 x 1.4 mm; SPI: 1; SSP: 2; Timers: 4; Code_JEDEC: MS-026; ComponentLink1Description: Manufacturer URL; ComponentLink1URL: http://www.nxp.com/; ComponentLink2Description: Datasheet; ComponentLink2URL: http://www.nxp.com/documents/data_sheet/LPC1769_68_67_66_65_64_63.pdf
footprint SOT407-1_V (Thin QFP, 100-Leads, Body 14x14mm, Pitch 0.5mm, NXP Recommended)
footprint SOT407-1_N (Thin QFP, 100-Leads, Body 14x14mm, Pitch 0.5mm, IPC Medium Density)
footprint SOT407-1_L (Thin QFP, 100-Leads, Body 14x14mm, Pitch 0.5mm, IPC High Density)
footprint SOT407-1_M (Thin QFP, 100-Leads, Body 14x14mm, Pitch 0.5mm, IPC Low Density)
part A pins: 1 TDO/SWO (out), 2 TDI (in), 3 TMS/SWDIO (io), 4 ~{TRST} (in), 5 TCK/SWDCLK (in), 6 P0[26]/AD0[3]/AOUT/RXD3 (io), 7 P0[25]/AD0[2]/I2SRX_SDA/TXD3 (io), 8 P0[24]/AD0[1]/I2SRX_WS/CAP3[1] (io), 9 P0[23]/AD0[0]/I2SRX_CLK/CAP3[0] (io), 13 NC, 14 ~{RSTOUT} (out), 16 RTCX1 (in), 17 ~{RESET} (in), 18 RTCX2 (out), 20 P1[31]/SCK1/AD0[5] (io), 21 P1[30]/VBUS/AD0[4] (io), 22 XTAL1, 23 XTAL2, 24 P0[28]/SCL0/USB_SCL (io), 25 P0[27]/SDA0/USB_SDA (io), 26 P3[26]/STCLK/MAT0[1]/PWM1[3] (io), 27 P3[25]/MAT0[0]/PWM1[2] (io), 29 P0[29]/USB_D+ (io), 30 P0[30]/USB_D- (io), 32 P1[18]/USB_UP_LED/PWM1[1]/CAP1[0] (io), 33 P1[19]/MCOA0/~{USB_PPWR}/CAP1[1] (io), 34 P1[20]/MCI0/PWM1[2]/SCK0 (io), 35 P1[21]/~{MCABORT}/PWM1[3]/SSEL0 (io), 36 P1[22]/MCOB0/USB_PWRD/MAT1[0] (io), 37 P1[23]/MCI1/PWM1[4]/MISO0 (io), 38 P1[24]/MCI2/PWM1[5]/MOSI0 (io), 39 P1[25]/MCOA1/MAT1[1] (io), 40 P1[26]/MCOB1/PWM1[6]/CAP0[0] (io), 43 P1[27]/CLKOUT/~{USB_OVRCR}/CAP0[1] (io), 44 P1[28]/MCOA2/PCAP1[0]/MAT0[0] (io), 45 P1[29]/MCOB2/PCAP1[1]/MAT0[1] (io), 46 P0[0]/RD1/TXD3/SDA1 (io), 47 P0[1]/TD1/RXD3/SCL1 (io), 48 P0[10]/TXD2/SDA2/MAT3[0] (io), 49 P0[11]/RXD2/SCL2/MAT3[1] (io), 50 P2[13]/~{EINT3}/I2STX_SDA (io), 51 P2[12]/~{EINT2}/I2STX_WS (io), 52 P2[11]/~{EINT1}/I2STX_CLK (io), 53 P2[10]/~{EINT0}/NMI (io), 56 P0[22]/RTS1/TD1 (io), 57 P0[21]/RI1/RD1 (io), 58 P0[20]/DTR1/SCL1 (io), 59 P0[19]/DSR1/SDA1 (io), 60 P0[18]/DCD1/MOSI0/MOSI (io), 61 P0[17]/CTS1/MISO0/MISO (io), 62 P0[15]/TXD1/SCK0/SCK (io), 63 P0[16]/RXD1/SSEL0/SSEL (io), 64 P2[9]/USB_CONNECT/RXD2 (io), 65 P2[8]/TD2/TXD2 (io), 66 P2[7]/RD2/RTS1 (io), 67 P2[6]/PCAP1[0]/RI1/TRACECLK (io), 68 P2[5]/PWM1[6]/DTR1/TRACEDATA[0] (io), 69 P2[4]/PWM1[5]/DSR1/TRACEDATA[1] (io), 70 P2[3]/PWM1[4]/DCD1/TRACEDATA[2] (io), 73 P2[2]/PWM1[3]/CTS1/TRACEDATA[3] (io), 74 P2[1]/PWM1[2]/RXD1 (io), 75 P2[0]/PWM1[1]/TXD1 (io), 76 P0[9]/I2STX_SDA/MOSI1/MAT2[3] (io), 77 P0[8]/I2STX_WS/MISO1/MAT2[2] (io), 78 P0[7]/I2STX_CLK/SCK1/MAT2[1] (io), 79 P0[6]/I2SRX_SDA/SSEL1/MAT2[0] (io), 80 P0[5]/I2SRX_WS/TD2/CAP2[1] (io), 81 P0[4]/I2SRX_CLK/RD2/CAP2[0] (io), 82 P4[28]/RX_MCLK/MAT2[0]/TXD3 (io), 85 P4[29]/TX_MCLK/MAT2[1]/RXD3 (io), 86 P1[17]/ENET_MDIO (io), 87 P1[16]/ENET_MDC (io), 88 P1[15]/ENET_REF_CLK (io), 89 P1[14]/ENET_RX_ER (io), 90 P1[10]/ENET_RXD1 (io), 91 P1[9]/ENET_RXD0 (io), 92 P1[8]/ENET_CRS (io), 93 P1[4]/ENET_TX_EN (io), 94 P1[1]/ENET_TXD1 (io), 95 P1[0]/ENET_TXD0 (io), 98 P0[2]/TXD0/AD0[7] (io), 99 P0[3]/RXD0/AD0[6] (io), 100 RTCK (out)
part B pins: 10 VDDA (power), 11 VSSA (power), 12 VREFP (power), 15 VREFN (power), 19 VBAT (power), 28 VDD(3V3) (power), 31 VSS (power), 41 VSS (power), 42 VDD(REG)(3V3) (power), 54 VDD(3V3) (power), 55 VSS (power), 71 VDD(3V3) (power), 72 VSS (power), 83 VSS (power), 84 VDD(REG)(3V3) (power), 96 VDD(3V3) (power), 97 VSS (power)